# Altium schematic symbol library FPGA_Microsemi.SchLib: 18 symbols (part 1 of 2)
Pins are listed as number, name and electrical type; pins without a type are passive.

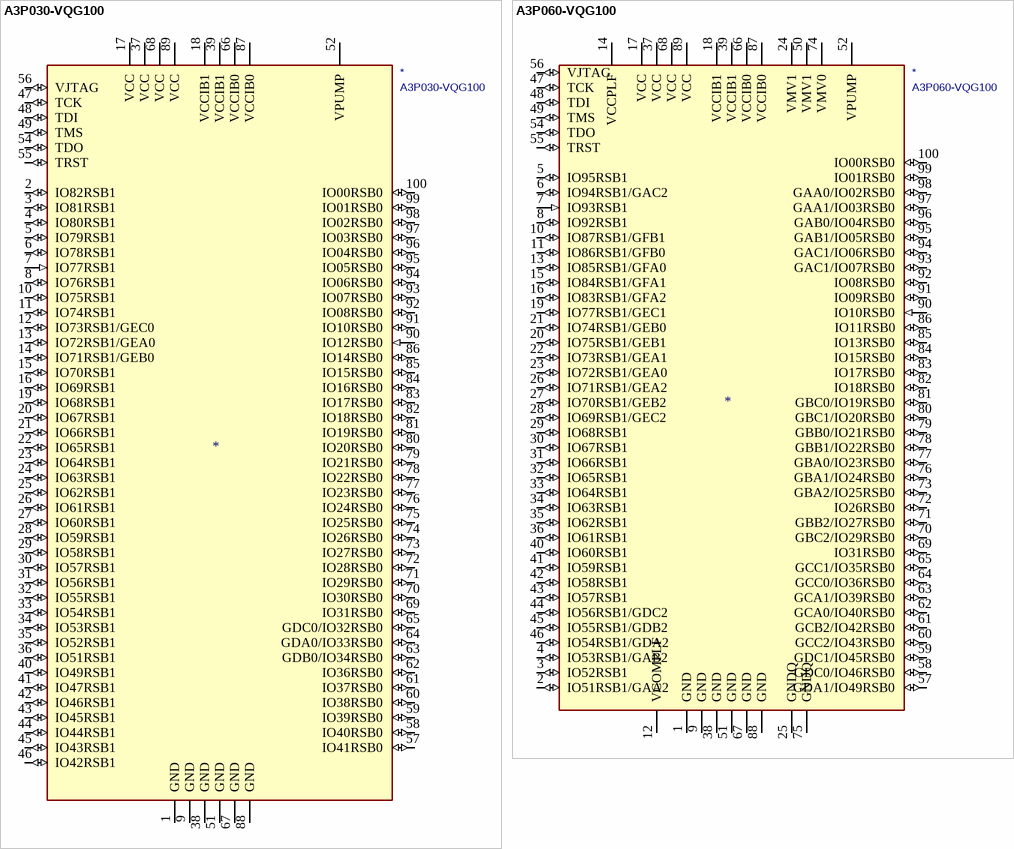
[diagram p0: symbols A3P030-VQG100 to A3P060-VQG100]

## A3P030-VQG100
designator *  value A3P030-VQG100
ki_keywords: ProASIC3 ACTEL FLASH; ki_description: Actel ProASIC3 Flash Family FPGAs, 256 MCLB, 100pin QFP100; ki_fp_filters: *QFP*14x14mm*P0.5mm*; Footprint: Package_QFP:VQFP-100_14x14mm_P0.5mm; Supplier: http://www.microsemi.com/document-portal/doc_download/130704-proasic3-flash-family-fpgas-datasheet
footprint VQFP-100_14x14mm_P0.5mm
pins: 1 GND (power), 2 IO82RSB1 (io), 3 IO81RSB1 (io), 4 IO80RSB1 (io), 5 IO79RSB1 (io), 6 IO78RSB1 (io), 7 IO77RSB1 (in), 8 IO76RSB1 (io), 9 GND (power), 10 IO75RSB1 (io), 11 IO74RSB1 (io), 12 IO73RSB1/GEC0 (io), 13 IO72RSB1/GEA0 (io), 14 IO71RSB1/GEB0 (io), 15 IO70RSB1 (io), 16 IO69RSB1 (io), 17 VCC (power), 18 VCCIB1 (power), 19 IO68RSB1 (io), 20 IO67RSB1 (io), 21 IO66RSB1 (io), 22 IO65RSB1 (io), 23 IO64RSB1 (io), 24 IO63RSB1 (io), 25 IO62RSB1 (io), 26 IO61RSB1 (io), 27 IO60RSB1 (io), 28 IO59RSB1 (io), 29 IO58RSB1 (io), 30 IO57RSB1 (io), 31 IO56RSB1 (io), 32 IO55RSB1 (io), 33 IO54RSB1 (io), 34 IO53RSB1 (io), 35 IO52RSB1 (io), 36 IO51RSB1 (io), 37 VCC (power), 38 GND (power), 39 VCCIB1 (power), 40 IO49RSB1 (io), 41 IO47RSB1 (io), 42 IO46RSB1 (io), 43 IO45RSB1 (io), 44 IO44RSB1 (io), 45 IO43RSB1 (io), 46 IO42RSB1 (io), 47 TCK (io), 48 TDI (io), 49 TMS (io), 51 GND (power), 52 VPUMP (power), 54 TDO (io), 55 TRST (io), 56 VJTAG (io), 57 IO41RSB0 (io), 58 IO40RSB0 (io), 59 IO39RSB0 (io), 60 IO38RSB0 (io), 61 IO37RSB0 (io), 62 IO36RSB0 (io), 63 GDB0/IO34RSB0 (io), 64 GDA0/IO33RSB0 (io), 65 GDC0/IO32RSB0 (io), 66 VCCIB0 (power), 67 GND (power), 68 VCC (power), 69 IO31RSB0 (io), 70 IO30RSB0 (io), 71 IO29RSB0 (io), 72 IO28RSB0 (io), 73 IO27RSB0 (io), 74 IO26RSB0 (io), 75 IO25RSB0 (io), 76 IO24RSB0 (io), 77 IO23RSB0 (io), 78 IO22RSB0 (io), 79 IO21RSB0 (io), 80 IO20RSB0 (io), 81 IO19RSB0 (io), 82 IO18RSB0 (io), 83 IO17RSB0 (io), 84 IO16RSB0 (io), 85 IO15RSB0 (io), 86 IO14RSB0 (io), 87 VCCIB0 (power), 88 GND (power), 89 VCC (power), 90 IO12RSB0 (in), 91 IO10RSB0 (io), 92 IO08RSB0 (io), 93 IO07RSB0 (io), 94 IO06RSB0 (io), 95 IO05RSB0 (io), 96 IO04RSB0 (io), 97 IO03RSB0 (io), 98 IO02RSB0 (io), 99 IO01RSB0 (io), 100 IO00RSB0 (io)

## A3P060-VQG100
designator *  value A3P060-VQG100
ki_keywords: ProASIC3 ACTEL FLASH; ki_description: Actel ProASIC3 Flash Family FPGAs, 512 MCLB, 100pin QFP100; ki_fp_filters: *QFP*14x14mm*P0.5mm*; Footprint: Package_QFP:VQFP-100_14x14mm_P0.5mm; Supplier: http://www.microsemi.com/document-portal/doc_download/130704-proasic3-flash-family-fpgas-datasheet
footprint VQFP-100_14x14mm_P0.5mm
pins: 1 GND (power), 2 IO51RSB1/GAA2 (io), 3 IO52RSB1 (io), 4 IO53RSB1/GAB2 (io), 5 IO95RSB1 (io), 6 IO94RSB1/GAC2 (io), 7 IO93RSB1 (in), 8 IO92RSB1 (io), 9 GND (power), 10 IO87RSB1/GFB1 (io), 11 IO86RSB1/GFB0 (io), 12 VCOMPLF (power), 13 IO85RSB1/GFA0 (io), 14 VCCPLF (power), 15 IO84RSB1/GFA1 (io), 16 IO83RSB1/GFA2 (io), 17 VCC (power), 18 VCCIB1 (power), 19 IO77RSB1/GEC1 (io), 20 IO75RSB1/GEB1 (io), 21 IO74RSB1/GEB0 (io), 22 IO73RSB1/GEA1 (io), 23 IO72RSB1/GEA0 (io), 24 VMV1 (power), 25 GNDQ (power), 26 IO71RSB1/GEA2 (io), 27 IO70RSB1/GEB2 (io), 28 IO69RSB1/GEC2 (io), 29 IO68RSB1 (io), 30 IO67RSB1 (io), 31 IO66RSB1 (io), 32 IO65RSB1 (io), 33 IO64RSB1 (io), 34 IO63RSB1 (io), 35 IO62RSB1 (io), 36 IO61RSB1 (io), 37 VCC (power), 38 GND (power), 39 VCCIB1 (power), 40 IO60RSB1 (io), 41 IO59RSB1 (io), 42 IO58RSB1 (io), 43 IO57RSB1 (io), 44 IO56RSB1/GDC2 (io), 45 IO55RSB1/GDB2 (io), 46 IO54RSB1/GDA2 (io), 47 TCK (io), 48 TDI (io), 49 TMS (io), 50 VMV1 (power), 51 GND (power), 52 VPUMP (power), 54 TDO (io), 55 TRST (io), 56 VJTAG (io), 57 GDA1/IO49RSB0 (io), 58 GDC0/IO46RSB0 (io), 59 GDC1/IO45RSB0 (io), 60 GCC2/IO43RSB0 (io), 61 GCB2/IO42RSB0 (io), 62 GCA0/IO40RSB0 (io), 63 GCA1/IO39RSB0 (io), 64 GCC0/IO36RSB0 (io), 65 GCC1/IO35RSB0 (io), 66 VCCIB0 (power), 67 GND (power), 68 VCC (power), 69 IO31RSB0 (io), 70 GBC2/IO29RSB0 (io), 71 GBB2/IO27RSB0 (io), 72 IO26RSB0 (io), 73 GBA2/IO25RSB0 (io), 74 VMV0 (power), 75 GNDQ (power), 76 GBA1/IO24RSB0 (io), 77 GBA0/IO23RSB0 (io), 78 GBB1/IO22RSB0 (io), 79 GBB0/IO21RSB0 (io), 80 GBC1/IO20RSB0 (io), 81 GBC0/IO19RSB0 (io), 82 IO18RSB0 (io), 83 IO17RSB0 (io), 84 IO15RSB0 (io), 85 IO13RSB0 (io), 86 IO11RSB0 (io), 87 VCCIB0 (power), 88 GND (power), 89 VCC (power), 90 IO10RSB0 (in), 91 IO09RSB0 (io), 92 IO08RSB0 (io), 93 GAC1/IO07RSB0 (io), 94 GAC1/IO06RSB0 (io), 95 GAB1/IO05RSB0 (io), 96 GAB0/IO04RSB0 (io), 97 GAA1/IO03RSB0 (io), 98 GAA0/IO02RSB0 (io), 99 IO01RSB0 (io), 100 IO00RSB0 (io)

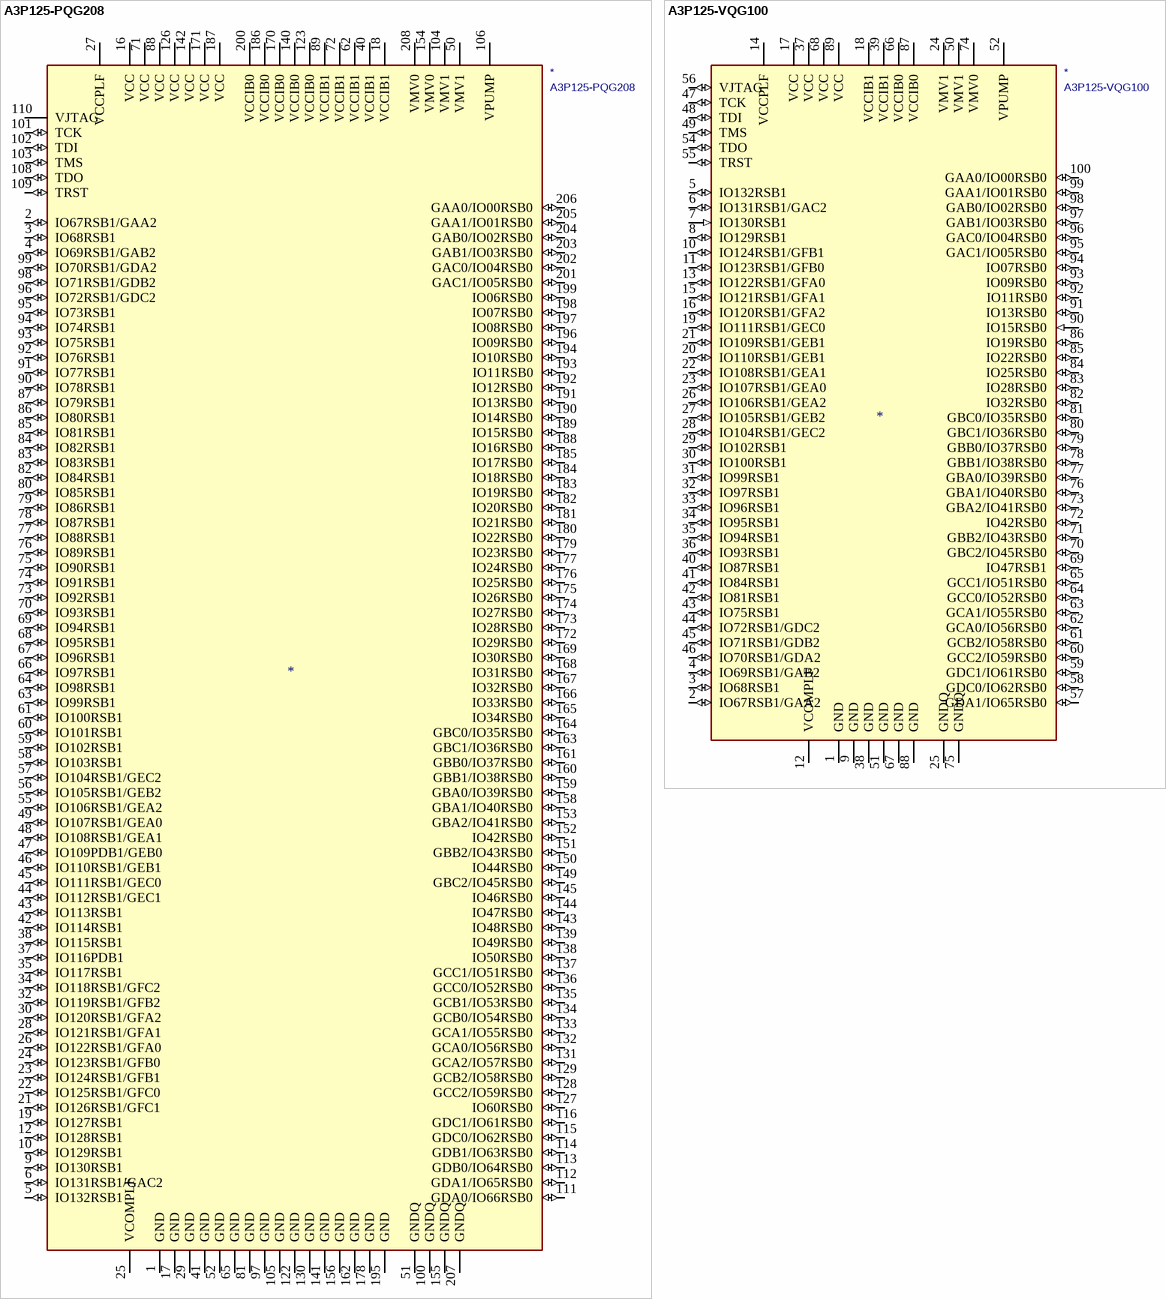
[diagram p1: symbols A3P125-PQG208 to A3P125-VQG100]

## A3P125-PQG208
designator *  value A3P125-PQG208
ki_keywords: ProASIC3 ACTEL FLASH; ki_description: Actel ProASIC3 Flash Family FPGAs, 1024MCB, 208pin QFP; ki_fp_filters: *PQFP*28x28mm*P0.5mm*; Footprint: Package_QFP:PQFP-208_28x28mm_P0.5mm; Supplier: http://www.microsemi.com/document-portal/doc_download/130704-proasic3-flash-family-fpgas-datasheet
footprint PQFP-208_28x28mm_P0.5mm
pins: 1 GND (power), 2 IO67RSB1/GAA2 (io), 3 IO68RSB1 (io), 4 IO69RSB1/GAB2 (io), 5 IO132RSB1 (io), 6 IO131RSB1/GAC2 (io), 9 IO130RSB1 (io), 10 IO129RSB1 (io), 12 IO128RSB1 (io), 16 VCC (power), 17 GND (power), 18 VCCIB1 (power), 19 IO127RSB1 (io), 21 IO126RSB1/GFC1 (io), 22 IO125RSB1/GFC0 (io), 23 IO124RSB1/GFB1 (io), 24 IO123RSB1/GFB0 (io), 25 VCOMPLF (power), 26 IO122RSB1/GFA0 (io), 27 VCCPLF (power), 28 IO121RSB1/GFA1 (io), 29 GND (power), 30 IO120RSB1/GFA2 (io), 32 IO119RSB1/GFB2 (io), 34 IO118RSB1/GFC2 (io), 35 IO117RSB1 (io), 37 IO116PDB1 (io), 38 IO115RSB1 (io), 40 VCCIB1 (power), 41 GND (power), 42 IO114RSB1 (io), 43 IO113RSB1 (io), 44 IO112RSB1/GEC1 (io), 45 IO111RSB1/GEC0 (io), 46 IO110RSB1/GEB1 (io), 47 IO109PDB1/GEB0 (io), 48 IO108RSB1/GEA1 (io), 49 IO107RSB1/GEA0 (io), 50 VMV1 (power), 51 GNDQ (power), 52 GND (power), 55 IO106RSB1/GEA2 (io), 56 IO105RSB1/GEB2 (io), 57 IO104RSB1/GEC2 (io), 58 IO103RSB1 (io), 59 IO102RSB1 (io), 60 IO101RSB1 (io), 61 IO100RSB1 (io), 62 VCCIB1 (power), 63 IO99RSB1 (io), 64 IO98RSB1 (io), 65 GND (power), 66 IO97RSB1 (io), 67 IO96RSB1 (io), 68 IO95RSB1 (io), 69 IO94RSB1 (io), 70 IO93RSB1 (io), 71 VCC (power), 72 VCCIB1 (power), 73 IO92RSB1 (io), 74 IO91RSB1 (io), 75 IO90RSB1 (io), 76 IO89RSB1 (io), 77 IO88RSB1 (io), 78 IO87RSB1 (io), 79 IO86RSB1 (io), 80 IO85RSB1 (io), 81 GND (power), 82 IO84RSB1 (io), 83 IO83RSB1 (io), 84 IO82RSB1 (io), 85 IO81RSB1 (io), 86 IO80RSB1 (io), 87 IO79RSB1 (io), 88 VCC (power), 89 VCCIB1 (power), 90 IO78RSB1 (io), 91 IO77RSB1 (io), 92 IO76RSB1 (io), 93 IO75RSB1 (io), 94 IO74RSB1 (io), 95 IO73RSB1 (io), 96 IO72RSB1/GDC2 (io), 97 GND (power), 98 IO71RSB1/GDB2 (io), 99 IO70RSB1/GDA2 (io), 100 GNDQ (power), 101 TCK (io), 102 TDI (io), 103 TMS (io), 104 VMV1 (power), 105 GND (power), 106 VPUMP (power), 108 TDO (io), 109 TRST (io), 110 VJTAG (power), 111 GDA0/IO66RSB0 (io), 112 GDA1/IO65RSB0 (io), 113 GDB0/IO64RSB0 (io), 114 GDB1/IO63RSB0 (io), 115 GDC0/IO62RSB0 (io), 116 GDC1/IO61RSB0 (io), 122 GND (power), 123 VCCIB0 (power), 126 VCC (power), 127 IO60RSB0 (io), 128 GCC2/IO59RSB0 (io), 129 GCB2/IO58RSB0 (io), 130 GND (power), 131 GCA2/IO57RSB0 (io), 132 GCA0/IO56RSB0 (io), 133 GCA1/IO55RSB0 (io), 134 GCB0/IO54RSB0 (io), 135 GCB1/IO53RSB0 (io), 136 GCC0/IO52RSB0 (io), 137 GCC1/IO51RSB0 (io), 138 IO50RSB0 (io), 139 IO49RSB0 (io), 140 VCCIB0 (power), 141 GND (power), 142 VCC (power), 143 IO48RSB0 (io), 144 IO47RSB0 (io), 145 IO46RSB0 (io), 149 GBC2/IO45RSB0 (io), 150 IO44RSB0 (io), 151 GBB2/IO43RSB0 (io), 152 IO42RSB0 (io), 153 GBA2/IO41RSB0 (io), 154 VMV0 (power), 155 GNDQ (power), 156 GND (power), 158 GBA1/IO40RSB0 (io), 159 GBA0/IO39RSB0 (io), 160 GBB1/IO38RSB0 (io), 161 GBB0/IO37RSB0 (io), 162 GND (power), 163 GBC1/IO36RSB0 (io), 164 GBC0/IO35RSB0 (io), 165 IO34RSB0 (io), 166 IO33RSB0 (io), 167 IO32RSB0 (io), 168 IO31RSB0 (io), 169 IO30RSB0 (io), 170 VCCIB0 (power), 171 VCC (power), 172 IO29RSB0 (io), 173 IO28RSB0 (io), 174 IO27RSB0 (io), 175 IO26RSB0 (io), 176 IO25RSB0 (io), 177 IO24RSB0 (io), 178 GND (power), 179 IO23RSB0 (io), 180 IO22RSB0 (io), 181 IO21RSB0 (io), 182 IO20RSB0 (io), 183 IO19RSB0 (io), 184 IO18RSB0 (io), 185 IO17RSB0 (io), 186 VCCIB0 (power), 187 VCC (power), 188 IO16RSB0 (io), 189 IO15RSB0 (io), 190 IO14RSB0 (io), 191 IO13RSB0 (io), 192 IO12RSB0 (io), 193 IO11RSB0 (io), 194 IO10RSB0 (io), 195 GND (power), 196 IO09RSB0 (io), 197 IO08RSB0 (io), 198 IO07RSB0 (io), 199 IO06RSB0 (io), 200 VCCIB0 (power), 201 GAC1/IO05RSB0 (io), 202 GAC0/IO04RSB0 (io), 203 GAB1/IO03RSB0 (io), 204 GAB0/IO02RSB0 (io), 205 GAA1/IO01RSB0 (io), 206 GAA0/IO00RSB0 (io), 207 GNDQ (power), 208 VMV0 (power)

## A3P125-VQG100
designator *  value A3P125-VQG100
ki_keywords: ProASIC3 ACTEL FLASH; ki_description: Actel ProASIC3 Flash Family FPGAs, 1024 MCLB, 100pin QFP100; ki_fp_filters: *QFP*14x14mm*P0.5mm*; Footprint: Package_QFP:VQFP-100_14x14mm_P0.5mm; Supplier: http://www.microsemi.com/document-portal/doc_download/130704-proasic3-flash-family-fpgas-datasheet
footprint VQFP-100_14x14mm_P0.5mm
pins: 1 GND (power), 2 IO67RSB1/GAA2 (io), 3 IO68RSB1 (io), 4 IO69RSB1/GAB2 (io), 5 IO132RSB1 (io), 6 IO131RSB1/GAC2 (io), 7 IO130RSB1 (in), 8 IO129RSB1 (io), 9 GND (power), 10 IO124RSB1/GFB1 (io), 11 IO123RSB1/GFB0 (io), 12 VCOMPLF (power), 13 IO122RSB1/GFA0 (io), 14 VCCPLF (power), 15 IO121RSB1/GFA1 (io), 16 IO120RSB1/GFA2 (io), 17 VCC (power), 18 VCCIB1 (power), 19 IO111RSB1/GEC0 (io), 20 IO110RSB1/GEB1 (io), 21 IO109RSB1/GEB1 (io), 22 IO108RSB1/GEA1 (io), 23 IO107RSB1/GEA0 (io), 24 VMV1 (power), 25 GNDQ (power), 26 IO106RSB1/GEA2 (io), 27 IO105RSB1/GEB2 (io), 28 IO104RSB1/GEC2 (io), 29 IO102RSB1 (io), 30 IO100RSB1 (io), 31 IO99RSB1 (io), 32 IO97RSB1 (io), 33 IO96RSB1 (io), 34 IO95RSB1 (io), 35 IO94RSB1 (io), 36 IO93RSB1 (io), 37 VCC (power), 38 GND (power), 39 VCCIB1 (power), 40 IO87RSB1 (io), 41 IO84RSB1 (io), 42 IO81RSB1 (io), 43 IO75RSB1 (io), 44 IO72RSB1/GDC2 (io), 45 IO71RSB1/GDB2 (io), 46 IO70RSB1/GDA2 (io), 47 TCK (io), 48 TDI (io), 49 TMS (io), 50 VMV1 (power), 51 GND (power), 52 VPUMP (power), 54 TDO (io), 55 TRST (io), 56 VJTAG (io), 57 GDA1/IO65RSB0 (io), 58 GDC0/IO62RSB0 (io), 59 GDC1/IO61RSB0 (io), 60 GCC2/IO59RSB0 (io), 61 GCB2/IO58RSB0 (io), 62 GCA0/IO56RSB0 (io), 63 GCA1/IO55RSB0 (io), 64 GCC0/IO52RSB0 (io), 65 GCC1/IO51RSB0 (io), 66 VCCIB0 (power), 67 GND (power), 68 VCC (power), 69 IO47RSB1 (io), 70 GBC2/IO45RSB0 (io), 71 GBB2/IO43RSB0 (io), 72 IO42RSB0 (io), 73 GBA2/IO41RSB0 (io), 74 VMV0 (power), 75 GNDQ (power), 76 GBA1/IO40RSB0 (io), 77 GBA0/IO39RSB0 (io), 78 GBB1/IO38RSB0 (io), 79 GBB0/IO37RSB0 (io), 80 GBC1/IO36RSB0 (io), 81 GBC0/IO35RSB0 (io), 82 IO32RSB0 (io), 83 IO28RSB0 (io), 84 IO25RSB0 (io), 85 IO22RSB0 (io), 86 IO19RSB0 (io), 87 VCCIB0 (power), 88 GND (power), 89 VCC (power), 90 IO15RSB0 (in), 91 IO13RSB0 (io), 92 IO11RSB0 (io), 93 IO09RSB0 (io), 94 IO07RSB0 (io), 95 GAC1/IO05RSB0 (io), 96 GAC0/IO04RSB0 (io), 97 GAB1/IO03RSB0 (io), 98 GAB0/IO02RSB0 (io), 99 GAA1/IO01RSB0 (io), 100 GAA0/IO00RSB0 (io)

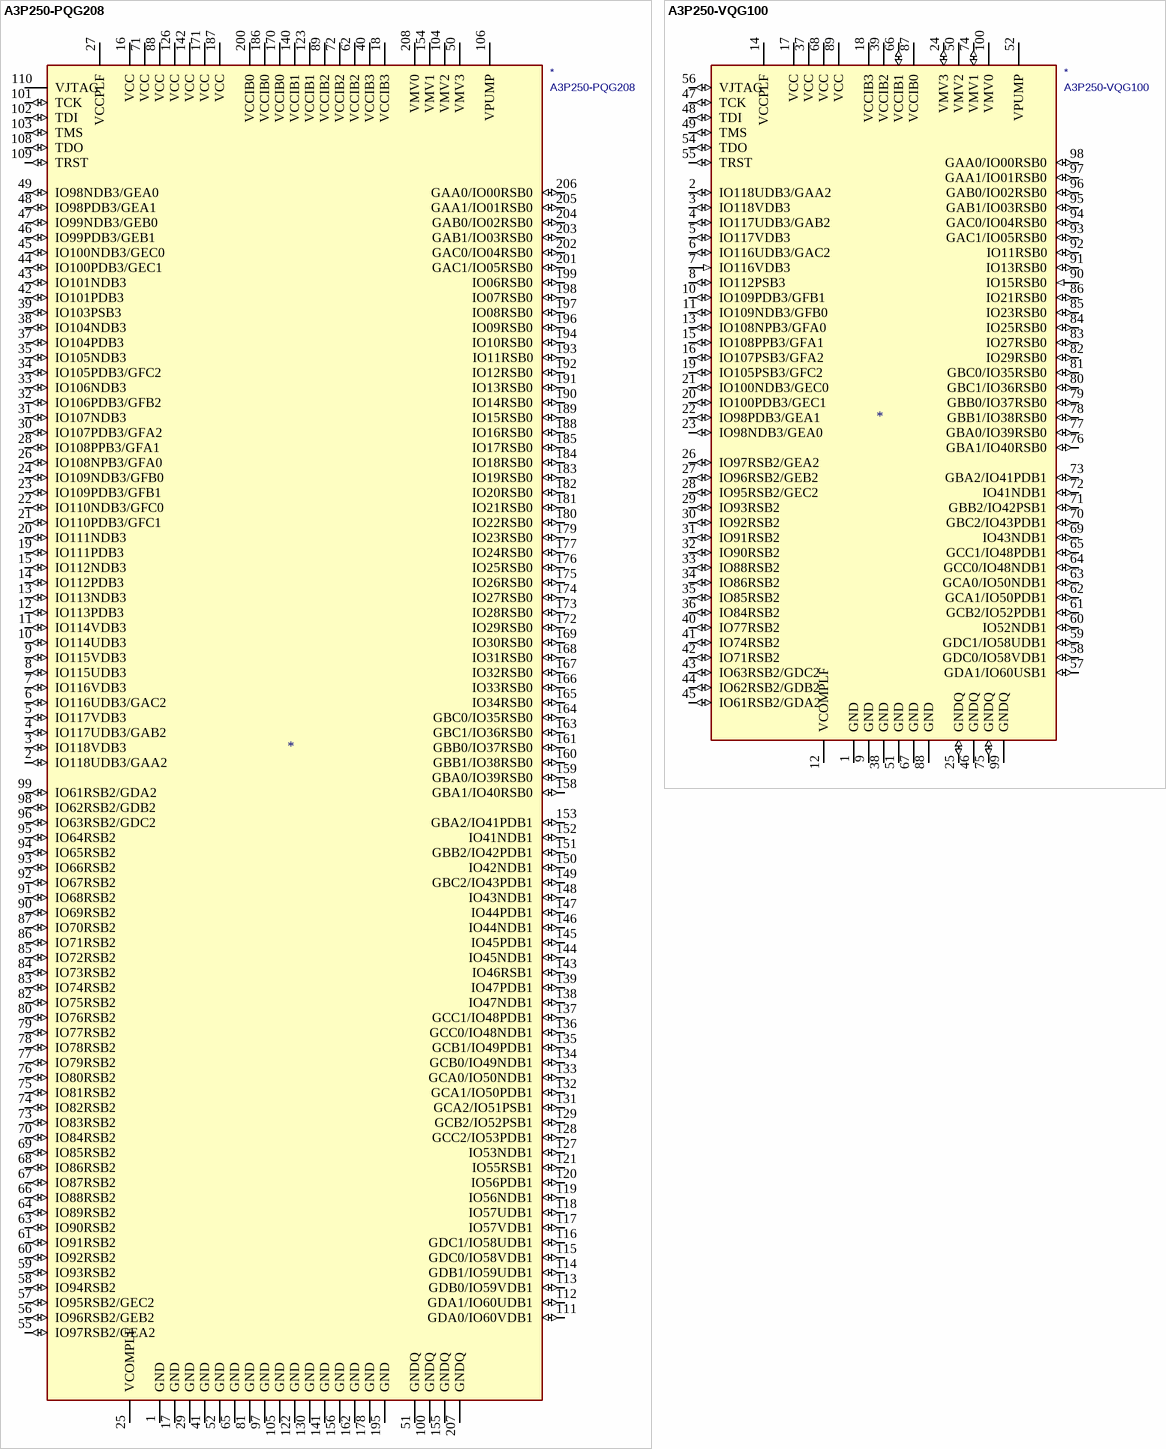
[diagram p2: symbols A3P250-PQG208 to A3P250-VQG100]

## A3P250-PQG208
designator *  value A3P250-PQG208
ki_keywords: ProASIC3 ACTEL FLASH; ki_description: Actel ProASIC3 Flash Family FPGAs, 2048MCB, 208pin QFP; ki_fp_filters: *PQFP*28x28mm*P0.5mm*; Footprint: Package_QFP:PQFP-208_28x28mm_P0.5mm; Supplier: http://www.microsemi.com/document-portal/doc_download/130704-proasic3-flash-family-fpgas-datasheet
footprint PQFP-208_28x28mm_P0.5mm
pins: 1 GND (power), 2 IO118UDB3/GAA2 (io), 3 IO118VDB3 (io), 4 IO117UDB3/GAB2 (io), 5 IO117VDB3 (io), 6 IO116UDB3/GAC2 (io), 7 IO116VDB3 (io), 8 IO115UDB3 (io), 9 IO115VDB3 (io), 10 IO114UDB3 (io), 11 IO114VDB3 (io), 12 IO113PDB3 (io), 13 IO113NDB3 (io), 14 IO112PDB3 (io), 15 IO112NDB3 (io), 16 VCC (power), 17 GND (power), 18 VCCIB3 (power), 19 IO111PDB3 (io), 20 IO111NDB3 (io), 21 IO110PDB3/GFC1 (io), 22 IO110NDB3/GFC0 (io), 23 IO109PDB3/GFB1 (io), 24 IO109NDB3/GFB0 (io), 25 VCOMPLF (power), 26 IO108NPB3/GFA0 (io), 27 VCCPLF (power), 28 IO108PPB3/GFA1 (io), 29 GND (power), 30 IO107PDB3/GFA2 (io), 31 IO107NDB3 (io), 32 IO106PDB3/GFB2 (io), 33 IO106NDB3 (io), 34 IO105PDB3/GFC2 (io), 35 IO105NDB3 (io), 37 IO104PDB3 (io), 38 IO104NDB3 (io), 39 IO103PSB3 (io), 40 VCCIB3 (power), 41 GND (power), 42 IO101PDB3 (io), 43 IO101NDB3 (io), 44 IO100PDB3/GEC1 (io), 45 IO100NDB3/GEC0 (io), 46 IO99PDB3/GEB1 (io), 47 IO99NDB3/GEB0 (io), 48 IO98PDB3/GEA1 (io), 49 IO98NDB3/GEA0 (io), 50 VMV3 (power), 51 GNDQ (power), 52 GND (power), 55 IO97RSB2/GEA2 (io), 56 IO96RSB2/GEB2 (io), 57 IO95RSB2/GEC2 (io), 58 IO94RSB2 (io), 59 IO93RSB2 (io), 60 IO92RSB2 (io), 61 IO91RSB2 (io), 62 VCCIB2 (power), 63 IO90RSB2 (io), 64 IO89RSB2 (io), 65 GND (power), 66 IO88RSB2 (io), 67 IO87RSB2 (io), 68 IO86RSB2 (io), 69 IO85RSB2 (io), 70 IO84RSB2 (io), 71 VCC (power), 72 VCCIB2 (power), 73 IO83RSB2 (io), 74 IO82RSB2 (io), 75 IO81RSB2 (io), 76 IO80RSB2 (io), 77 IO79RSB2 (io), 78 IO78RSB2 (io), 79 IO77RSB2 (io), 80 IO76RSB2 (io), 81 GND (power), 82 IO75RSB2 (io), 83 IO74RSB2 (io), 84 IO73RSB2 (io), 85 IO72RSB2 (io), 86 IO71RSB2 (io), 87 IO70RSB2 (io), 88 VCC (power), 89 VCCIB2 (power), 90 IO69RSB2 (io), 91 IO68RSB2 (io), 92 IO67RSB2 (io), 93 IO66RSB2 (io), 94 IO65RSB2 (io), 95 IO64RSB2 (io), 96 IO63RSB2/GDC2 (io), 97 GND (power), 98 IO62RSB2/GDB2 (io), 99 IO61RSB2/GDA2 (io), 100 GNDQ (power), 101 TCK (io), 102 TDI (io), 103 TMS (io), 104 VMV2 (power), 105 GND (power), 106 VPUMP (power), 108 TDO (io), 109 TRST (io), 110 VJTAG (power), 111 GDA0/IO60VDB1 (io), 112 GDA1/IO60UDB1 (io), 113 GDB0/IO59VDB1 (io), 114 GDB1/IO59UDB1 (io), 115 GDC0/IO58VDB1 (io), 116 GDC1/IO58UDB1 (io), 117 IO57VDB1 (io), 118 IO57UDB1 (io), 119 IO56NDB1 (io), 120 IO56PDB1 (io), 121 IO55RSB1 (io), 122 GND (power), 123 VCCIB1 (power), 126 VCC (power), 127 IO53NDB1 (io), 128 GCC2/IO53PDB1 (io), 129 GCB2/IO52PSB1 (io), 130 GND (power), 131 GCA2/IO51PSB1 (io), 132 GCA1/IO50PDB1 (io), 133 GCA0/IO50NDB1 (io), 134 GCB0/IO49NDB1 (io), 135 GCB1/IO49PDB1 (io), 136 GCC0/IO48NDB1 (io), 137 GCC1/IO48PDB1 (io), 138 IO47NDB1 (io), 139 IO47PDB1 (io), 140 VCCIB1 (power), 141 GND (power), 142 VCC (power), 143 IO46RSB1 (io), 144 IO45NDB1 (io), 145 IO45PDB1 (io), 146 IO44NDB1 (io), 147 IO44PDB1 (io), 148 IO43NDB1 (io), 149 GBC2/IO43PDB1 (io), 150 IO42NDB1 (io), 151 GBB2/IO42PDB1 (io), 152 IO41NDB1 (io), 153 GBA2/IO41PDB1 (io), 154 VMV1 (power), 155 GNDQ (power), 156 GND (power), 158 GBA1/IO40RSB0 (io), 159 GBA0/IO39RSB0 (io), 160 GBB1/IO38RSB0 (io), 161 GBB0/IO37RSB0 (io), 162 GND (power), 163 GBC1/IO36RSB0 (io), 164 GBC0/IO35RSB0 (io), 165 IO34RSB0 (io), 166 IO33RSB0 (io), 167 IO32RSB0 (io), 168 IO31RSB0 (io), 169 IO30RSB0 (io), 170 VCCIB0 (power), 171 VCC (power), 172 IO29RSB0 (io), 173 IO28RSB0 (io), 174 IO27RSB0 (io), 175 IO26RSB0 (io), 176 IO25RSB0 (io), 177 IO24RSB0 (io), 178 GND (power), 179 IO23RSB0 (io), 180 IO22RSB0 (io), 181 IO21RSB0 (io), 182 IO20RSB0 (io), 183 IO19RSB0 (io), 184 IO18RSB0 (io), 185 IO17RSB0 (io), 186 VCCIB0 (power), 187 VCC (power), 188 IO16RSB0 (io), 189 IO15RSB0 (io), 190 IO14RSB0 (io), 191 IO13RSB0 (io), 192 IO12RSB0 (io), 193 IO11RSB0 (io), 194 IO10RSB0 (io), 195 GND (power), 196 IO09RSB0 (io), 197 IO08RSB0 (io), 198 IO07RSB0 (io), 199 IO06RSB0 (io), 200 VCCIB0 (power), 201 GAC1/IO05RSB0 (io), 202 GAC0/IO04RSB0 (io), 203 GAB1/IO03RSB0 (io), 204 GAB0/IO02RSB0 (io), 205 GAA1/IO01RSB0 (io), 206 GAA0/IO00RSB0 (io), 207 GNDQ (power), 208 VMV0 (power)

## A3P250-VQG100
designator *  value A3P250-VQG100
ki_keywords: ProASIC3 ACTEL FLASH; ki_description: Actel ProASIC3 Flash Family FPGAs, 2048 MCLB, 100pin QFP100; ki_fp_filters: *QFP*14x14mm*P0.5mm*; Footprint: Package_QFP:VQFP-100_14x14mm_P0.5mm; Supplier: http://www.microsemi.com/document-portal/doc_download/130704-proasic3-flash-family-fpgas-datasheet
footprint VQFP-100_14x14mm_P0.5mm
pins: 1 GND (power), 2 IO118UDB3/GAA2 (io), 3 IO118VDB3 (io), 4 IO117UDB3/GAB2 (io), 5 IO117VDB3 (io), 6 IO116UDB3/GAC2 (io), 7 IO116VDB3 (in), 8 IO112PSB3 (io), 9 GND (power), 10 IO109PDB3/GFB1 (io), 11 IO109NDB3/GFB0 (io), 12 VCOMPLF (power), 13 IO108NPB3/GFA0 (io), 14 VCCPLF (power), 15 IO108PPB3/GFA1 (io), 16 IO107PSB3/GFA2 (io), 17 VCC (power), 18 VCCIB3 (power), 19 IO105PSB3/GFC2 (io), 20 IO100PDB3/GEC1 (io), 21 IO100NDB3/GEC0 (io), 22 IO98PDB3/GEA1 (io), 23 IO98NDB3/GEA0 (io), 24 VMV3 (io), 25 GNDQ (io), 26 IO97RSB2/GEA2 (io), 27 IO96RSB2/GEB2 (io), 28 IO95RSB2/GEC2 (io), 29 IO93RSB2 (io), 30 IO92RSB2 (io), 31 IO91RSB2 (io), 32 IO90RSB2 (io), 33 IO88RSB2 (io), 34 IO86RSB2 (io), 35 IO85RSB2 (io), 36 IO84RSB2 (io), 37 VCC (power), 38 GND (power), 39 VCCIB2 (power), 40 IO77RSB2 (io), 41 IO74RSB2 (io), 42 IO71RSB2 (io), 43 IO63RSB2/GDC2 (io), 44 IO62RSB2/GDB2 (io), 45 IO61RSB2/GDA2 (io), 46 GNDQ (power), 47 TCK (io), 48 TDI (io), 49 TMS (io), 50 VMV2 (power), 51 GND (power), 52 VPUMP (power), 54 TDO (io), 55 TRST (io), 56 VJTAG (io), 57 GDA1/IO60USB1 (io), 58 GDC0/IO58VDB1 (io), 59 GDC1/IO58UDB1 (io), 60 IO52NDB1 (io), 61 GCB2/IO52PDB1 (io), 62 GCA1/IO50PDB1 (io), 63 GCA0/IO50NDB1 (io), 64 GCC0/IO48NDB1 (io), 65 GCC1/IO48PDB1 (io), 66 VCCIB1 (io), 67 GND (power), 68 VCC (power), 69 IO43NDB1 (io), 70 GBC2/IO43PDB1 (io), 71 GBB2/IO42PSB1 (io), 72 IO41NDB1 (io), 73 GBA2/IO41PDB1 (io), 74 VMV1 (io), 75 GNDQ (io), 76 GBA1/IO40RSB0 (io), 77 GBA0/IO39RSB0 (io), 78 GBB1/IO38RSB0 (io), 79 GBB0/IO37RSB0 (io), 80 GBC1/IO36RSB0 (io), 81 GBC0/IO35RSB0 (io), 82 IO29RSB0 (io), 83 IO27RSB0 (io), 84 IO25RSB0 (io), 85 IO23RSB0 (io), 86 IO21RSB0 (io), 87 VCCIB0 (power), 88 GND (power), 89 VCC (power), 90 IO15RSB0 (in), 91 IO13RSB0 (io), 92 IO11RSB0 (io), 93 GAC1/IO05RSB0 (io), 94 GAC0/IO04RSB0 (io), 95 GAB1/IO03RSB0 (io), 96 GAB0/IO02RSB0 (io), 97 GAA1/IO01RSB0 (io), 98 GAA0/IO00RSB0 (io), 99 GNDQ (power), 100 VMV0 (power)

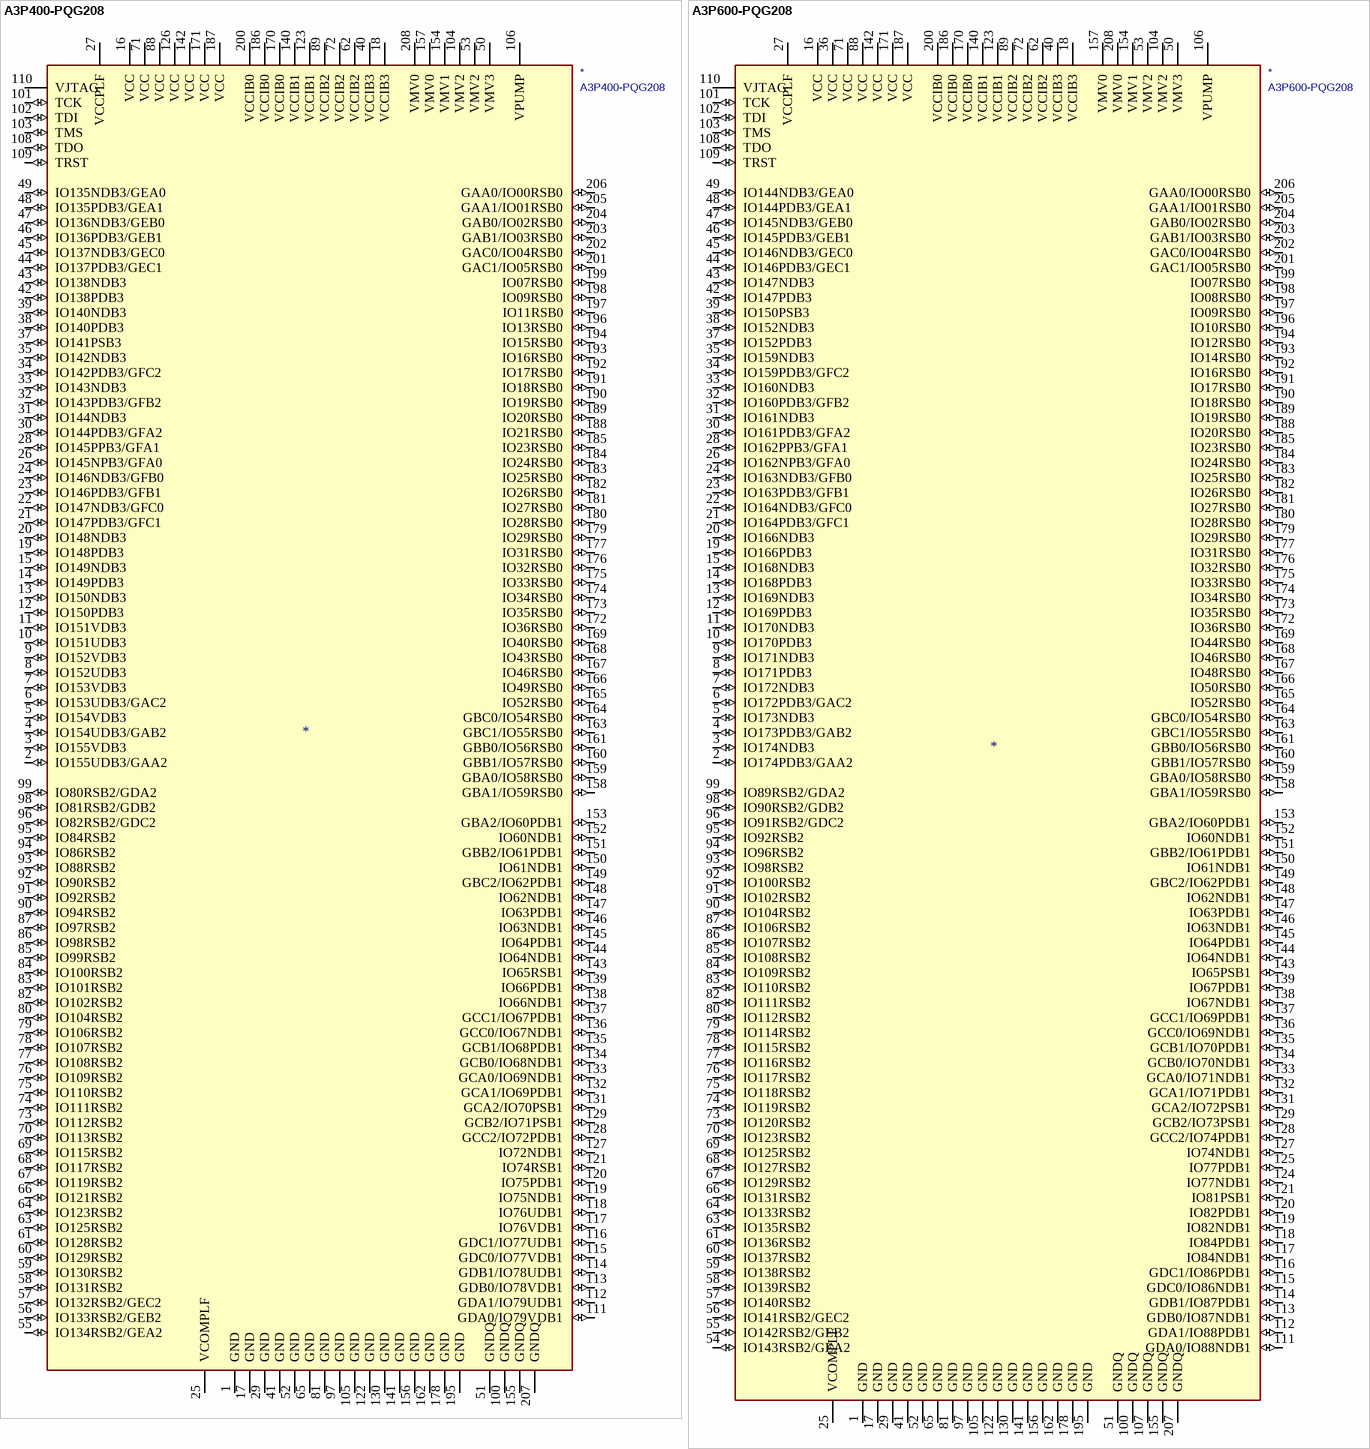
[diagram p3: symbols A3P400-PQG208 to A3P600-PQG208]

## A3P400-PQG208
designator *  value A3P400-PQG208
ki_keywords: ProASIC3 ACTEL FLASH; ki_description: Actel ProASIC3 Flash Family FPGAs, 400k Gates, 208pin QFP; ki_fp_filters: *PQFP*28x28mm*P0.5mm*; Footprint: Package_QFP:PQFP-208_28x28mm_P0.5mm; Supplier: http://www.microsemi.com/document-portal/doc_download/130704-proasic3-flash-family-fpgas-datasheet
footprint PQFP-208_28x28mm_P0.5mm
pins: 1 GND (power), 2 IO155UDB3/GAA2 (io), 3 IO155VDB3 (io), 4 IO154UDB3/GAB2 (io), 5 IO154VDB3 (io), 6 IO153UDB3/GAC2 (io), 7 IO153VDB3 (io), 8 IO152UDB3 (io), 9 IO152VDB3 (io), 10 IO151UDB3 (io), 11 IO151VDB3 (io), 12 IO150PDB3 (io), 13 IO150NDB3 (io), 14 IO149PDB3 (io), 15 IO149NDB3 (io), 16 VCC (power), 17 GND (power), 18 VCCIB3 (power), 19 IO148PDB3 (io), 20 IO148NDB3 (io), 21 IO147PDB3/GFC1 (io), 22 IO147NDB3/GFC0 (io), 23 IO146PDB3/GFB1 (io), 24 IO146NDB3/GFB0 (io), 25 VCOMPLF (power), 26 IO145NPB3/GFA0 (io), 27 VCCPLF (power), 28 IO145PPB3/GFA1 (io), 29 GND (power), 30 IO144PDB3/GFA2 (io), 31 IO144NDB3 (io), 32 IO143PDB3/GFB2 (io), 33 IO143NDB3 (io), 34 IO142PDB3/GFC2 (io), 35 IO142NDB3 (io), 37 IO141PSB3 (io), 38 IO140PDB3 (io), 39 IO140NDB3 (io), 40 VCCIB3 (power), 41 GND (power), 42 IO138PDB3 (io), 43 IO138NDB3 (io), 44 IO137PDB3/GEC1 (io), 45 IO137NDB3/GEC0 (io), 46 IO136PDB3/GEB1 (io), 47 IO136NDB3/GEB0 (io), 48 IO135PDB3/GEA1 (io), 49 IO135NDB3/GEA0 (io), 50 VMV3 (power), 51 GNDQ (power), 52 GND (power), 53 VMV2 (power), 55 IO134RSB2/GEA2 (io), 56 IO133RSB2/GEB2 (io), 57 IO132RSB2/GEC2 (io), 58 IO131RSB2 (io), 59 IO130RSB2 (io), 60 IO129RSB2 (io), 61 IO128RSB2 (io), 62 VCCIB2 (power), 63 IO125RSB2 (io), 64 IO123RSB2 (io), 65 GND (power), 66 IO121RSB2 (io), 67 IO119RSB2 (io), 68 IO117RSB2 (io), 69 IO115RSB2 (io), 70 IO113RSB2 (io), 71 VCC (power), 72 VCCIB2 (power), 73 IO112RSB2 (io), 74 IO111RSB2 (io), 75 IO110RSB2 (io), 76 IO109RSB2 (io), 77 IO108RSB2 (io), 78 IO107RSB2 (io), 79 IO106RSB2 (io), 80 IO104RSB2 (io), 81 GND (power), 82 IO102RSB2 (io), 83 IO101RSB2 (io), 84 IO100RSB2 (io), 85 IO99RSB2 (io), 86 IO98RSB2 (io), 87 IO97RSB2 (io), 88 VCC (power), 89 VCCIB2 (power), 90 IO94RSB2 (io), 91 IO92RSB2 (io), 92 IO90RSB2 (io), 93 IO88RSB2 (io), 94 IO86RSB2 (io), 95 IO84RSB2 (io), 96 IO82RSB2/GDC2 (io), 97 GND (power), 98 IO81RSB2/GDB2 (io), 99 IO80RSB2/GDA2 (io), 100 GNDQ (power), 101 TCK (io), 102 TDI (io), 103 TMS (io), 104 VMV2 (power), 105 GND (power), 106 VPUMP (power), 108 TDO (io), 109 TRST (io), 110 VJTAG (power), 111 GDA0/IO79VDB1 (io), 112 GDA1/IO79UDB1 (io), 113 GDB0/IO78VDB1 (io), 114 GDB1/IO78UDB1 (io), 115 GDC0/IO77VDB1 (io), 116 GDC1/IO77UDB1 (io), 117 IO76VDB1 (io), 118 IO76UDB1 (io), 119 IO75NDB1 (io), 120 IO75PDB1 (io), 121 IO74RSB1 (io), 122 GND (power), 123 VCCIB1 (power), 126 VCC (power), 127 IO72NDB1 (io), 128 GCC2/IO72PDB1 (io), 129 GCB2/IO71PSB1 (io), 130 GND (power), 131 GCA2/IO70PSB1 (io), 132 GCA1/IO69PDB1 (io), 133 GCA0/IO69NDB1 (io), 134 GCB0/IO68NDB1 (io), 135 GCB1/IO68PDB1 (io), 136 GCC0/IO67NDB1 (io), 137 GCC1/IO67PDB1 (io), 138 IO66NDB1 (io), 139 IO66PDB1 (io), 140 VCCIB1 (power), 141 GND (power), 142 VCC (power), 143 IO65RSB1 (io), 144 IO64NDB1 (io), 145 IO64PDB1 (io), 146 IO63NDB1 (io), 147 IO63PDB1 (io), 148 IO62NDB1 (io), 149 GBC2/IO62PDB1 (io), 150 IO61NDB1 (io), 151 GBB2/IO61PDB1 (io), 152 IO60NDB1 (io), 153 GBA2/IO60PDB1 (io), 154 VMV1 (power), 155 GNDQ (power), 156 GND (power), 157 VMV0 (power), 158 GBA1/IO59RSB0 (io), 159 GBA0/IO58RSB0 (io), 160 GBB1/IO57RSB0 (io), 161 GBB0/IO56RSB0 (io), 162 GND (power), 163 GBC1/IO55RSB0 (io), 164 GBC0/IO54RSB0 (io), 165 IO52RSB0 (io), 166 IO49RSB0 (io), 167 IO46RSB0 (io), 168 IO43RSB0 (io), 169 IO40RSB0 (io), 170 VCCIB0 (power), 171 VCC (power), 172 IO36RSB0 (io), 173 IO35RSB0 (io), 174 IO34RSB0 (io), 175 IO33RSB0 (io), 176 IO32RSB0 (io), 177 IO31RSB0 (io), 178 GND (power), 179 IO29RSB0 (io), 180 IO28RSB0 (io), 181 IO27RSB0 (io), 182 IO26RSB0 (io), 183 IO25RSB0 (io), 184 IO24RSB0 (io), 185 IO23RSB0 (io), 186 VCCIB0 (power), 187 VCC (power), 188 IO21RSB0 (io), 189 IO20RSB0 (io), 190 IO19RSB0 (io), 191 IO18RSB0 (io), 192 IO17RSB0 (io), 193 IO16RSB0 (io), 194 IO15RSB0 (io), 195 GND (power), 196 IO13RSB0 (io), 197 IO11RSB0 (io), 198 IO09RSB0 (io), 199 IO07RSB0 (io), 200 VCCIB0 (power), 201 GAC1/IO05RSB0 (io), 202 GAC0/IO04RSB0 (io), 203 GAB1/IO03RSB0 (io), 204 GAB0/IO02RSB0 (io), 205 GAA1/IO01RSB0 (io), 206 GAA0/IO00RSB0 (io), 207 GNDQ (power), 208 VMV0 (power)

## A3P600-PQG208
designator *  value A3P600-PQG208
ki_keywords: ProASIC3 ACTEL FLASH; ki_description: Actel ProASIC3 Flash Family FPGAs, 600k Gates, 208pin QFP; ki_fp_filters: *PQFP*28x28mm*P0.5mm*; Footprint: Package_QFP:PQFP-208_28x28mm_P0.5mm; Supplier: http://www.microsemi.com/document-portal/doc_download/130704-proasic3-flash-family-fpgas-datasheet
footprint PQFP-208_28x28mm_P0.5mm
pins: 1 GND (power), 2 IO174PDB3/GAA2 (io), 3 IO174NDB3 (io), 4 IO173PDB3/GAB2 (io), 5 IO173NDB3 (io), 6 IO172PDB3/GAC2 (io), 7 IO172NDB3 (io), 8 IO171PDB3 (io), 9 IO171NDB3 (io), 10 IO170PDB3 (io), 11 IO170NDB3 (io), 12 IO169PDB3 (io), 13 IO169NDB3 (io), 14 IO168PDB3 (io), 15 IO168NDB3 (io), 16 VCC (power), 17 GND (power), 18 VCCIB3 (power), 19 IO166PDB3 (io), 20 IO166NDB3 (io), 21 IO164PDB3/GFC1 (io), 22 IO164NDB3/GFC0 (io), 23 IO163PDB3/GFB1 (io), 24 IO163NDB3/GFB0 (io), 25 VCOMPLF (power), 26 IO162NPB3/GFA0 (io), 27 VCCPLF (power), 28 IO162PPB3/GFA1 (io), 29 GND (power), 30 IO161PDB3/GFA2 (io), 31 IO161NDB3 (io), 32 IO160PDB3/GFB2 (io), 33 IO160NDB3 (io), 34 IO159PDB3/GFC2 (io), 35 IO159NDB3 (io), 36 VCC (power), 37 IO152PDB3 (io), 38 IO152NDB3 (io), 39 IO150PSB3 (io), 40 VCCIB3 (power), 41 GND (power), 42 IO147PDB3 (io), 43 IO147NDB3 (io), 44 IO146PDB3/GEC1 (io), 45 IO146NDB3/GEC0 (io), 46 IO145PDB3/GEB1 (io), 47 IO145NDB3/GEB0 (io), 48 IO144PDB3/GEA1 (io), 49 IO144NDB3/GEA0 (io), 50 VMV3 (power), 51 GNDQ (power), 52 GND (power), 53 VMV2 (power), 54 IO143RSB2/GEA2 (io), 55 IO142RSB2/GEB2 (io), 56 IO141RSB2/GEC2 (io), 57 IO140RSB2 (io), 58 IO139RSB2 (io), 59 IO138RSB2 (io), 60 IO137RSB2 (io), 61 IO136RSB2 (io), 62 VCCIB2 (power), 63 IO135RSB2 (io), 64 IO133RSB2 (io), 65 GND (power), 66 IO131RSB2 (io), 67 IO129RSB2 (io), 68 IO127RSB2 (io), 69 IO125RSB2 (io), 70 IO123RSB2 (io), 71 VCC (power), 72 VCCIB2 (power), 73 IO120RSB2 (io), 74 IO119RSB2 (io), 75 IO118RSB2 (io), 76 IO117RSB2 (io), 77 IO116RSB2 (io), 78 IO115RSB2 (io), 79 IO114RSB2 (io), 80 IO112RSB2 (io), 81 GND (power), 82 IO111RSB2 (io), 83 IO110RSB2 (io), 84 IO109RSB2 (io), 85 IO108RSB2 (io), 86 IO107RSB2 (io), 87 IO106RSB2 (io), 88 VCC (power), 89 VCCIB2 (power), 90 IO104RSB2 (io), 91 IO102RSB2 (io), 92 IO100RSB2 (io), 93 IO98RSB2 (io), 94 IO96RSB2 (io), 95 IO92RSB2 (io), 96 IO91RSB2/GDC2 (io), 97 GND (power), 98 IO90RSB2/GDB2 (io), 99 IO89RSB2/GDA2 (io), 100 GNDQ (power), 101 TCK (io), 102 TDI (io), 103 TMS (io), 104 VMV2 (power), 105 GND (power), 106 VPUMP (power), 107 GNDQ (power), 108 TDO (io), 109 TRST (io), 110 VJTAG (power), 111 GDA0/IO88NDB1 (io), 112 GDA1/IO88PDB1 (io), 113 GDB0/IO87NDB1 (io), 114 GDB1/IO87PDB1 (io), 115 GDC0/IO86NDB1 (io), 116 GDC1/IO86PDB1 (io), 117 IO84NDB1 (io), 118 IO84PDB1 (io), 119 IO82NDB1 (io), 120 IO82PDB1 (io), 121 IO81PSB1 (io), 122 GND (power), 123 VCCIB1 (power), 124 IO77NDB1 (io), 125 IO77PDB1 (io), 127 IO74NDB1 (io), 128 GCC2/IO74PDB1 (io), 129 GCB2/IO73PSB1 (io), 130 GND (power), 131 GCA2/IO72PSB1 (io), 132 GCA1/IO71PDB1 (io), 133 GCA0/IO71NDB1 (io), 134 GCB0/IO70NDB1 (io), 135 GCB1/IO70PDB1 (io), 136 GCC0/IO69NDB1 (io), 137 GCC1/IO69PDB1 (io), 138 IO67NDB1 (io), 139 IO67PDB1 (io), 140 VCCIB1 (power), 141 GND (power), 142 VCC (power), 143 IO65PSB1 (io), 144 IO64NDB1 (io), 145 IO64PDB1 (io), 146 IO63NDB1 (io), 147 IO63PDB1 (io), 148 IO62NDB1 (io), 149 GBC2/IO62PDB1 (io), 150 IO61NDB1 (io), 151 GBB2/IO61PDB1 (io), 152 IO60NDB1 (io), 153 GBA2/IO60PDB1 (io), 154 VMV1 (power), 155 GNDQ (power), 156 GND (power), 157 VMV0 (power), 158 GBA1/IO59RSB0 (io), 159 GBA0/IO58RSB0 (io), 160 GBB1/IO57RSB0 (io), 161 GBB0/IO56RSB0 (io), 162 GND (power), 163 GBC1/IO55RSB0 (io), 164 GBC0/IO54RSB0 (io), 165 IO52RSB0 (io), 166 IO50RSB0 (io), 167 IO48RSB0 (io), 168 IO46RSB0 (io), 169 IO44RSB0 (io), 170 VCCIB0 (power), 171 VCC (power), 172 IO36RSB0 (io), 173 IO35RSB0 (io), 174 IO34RSB0 (io), 175 IO33RSB0 (io), 176 IO32RSB0 (io), 177 IO31RSB0 (io), 178 GND (power), 179 IO29RSB0 (io), 180 IO28RSB0 (io), 181 IO27RSB0 (io), 182 IO26RSB0 (io), 183 IO25RSB0 (io), 184 IO24RSB0 (io), 185 IO23RSB0 (io), 186 VCCIB0 (power), 187 VCC (power), 188 IO20RSB0 (io), 189 IO19RSB0 (io), 190 IO18RSB0 (io), 191 IO17RSB0 (io), 192 IO16RSB0 (io), 193 IO14RSB0 (io), 194 IO12RSB0 (io), 195 GND (power), 196 IO10RSB0 (io), 197 IO09RSB0 (io), 198 IO08RSB0 (io), 199 IO07RSB0 (io), 200 VCCIB0 (power), 201 GAC1/IO05RSB0 (io), 202 GAC0/IO04RSB0 (io), 203 GAB1/IO03RSB0 (io), 204 GAB0/IO02RSB0 (io), 205 GAA1/IO01RSB0 (io), 206 GAA0/IO00RSB0 (io), 207 GNDQ (power), 208 VMV0 (power)

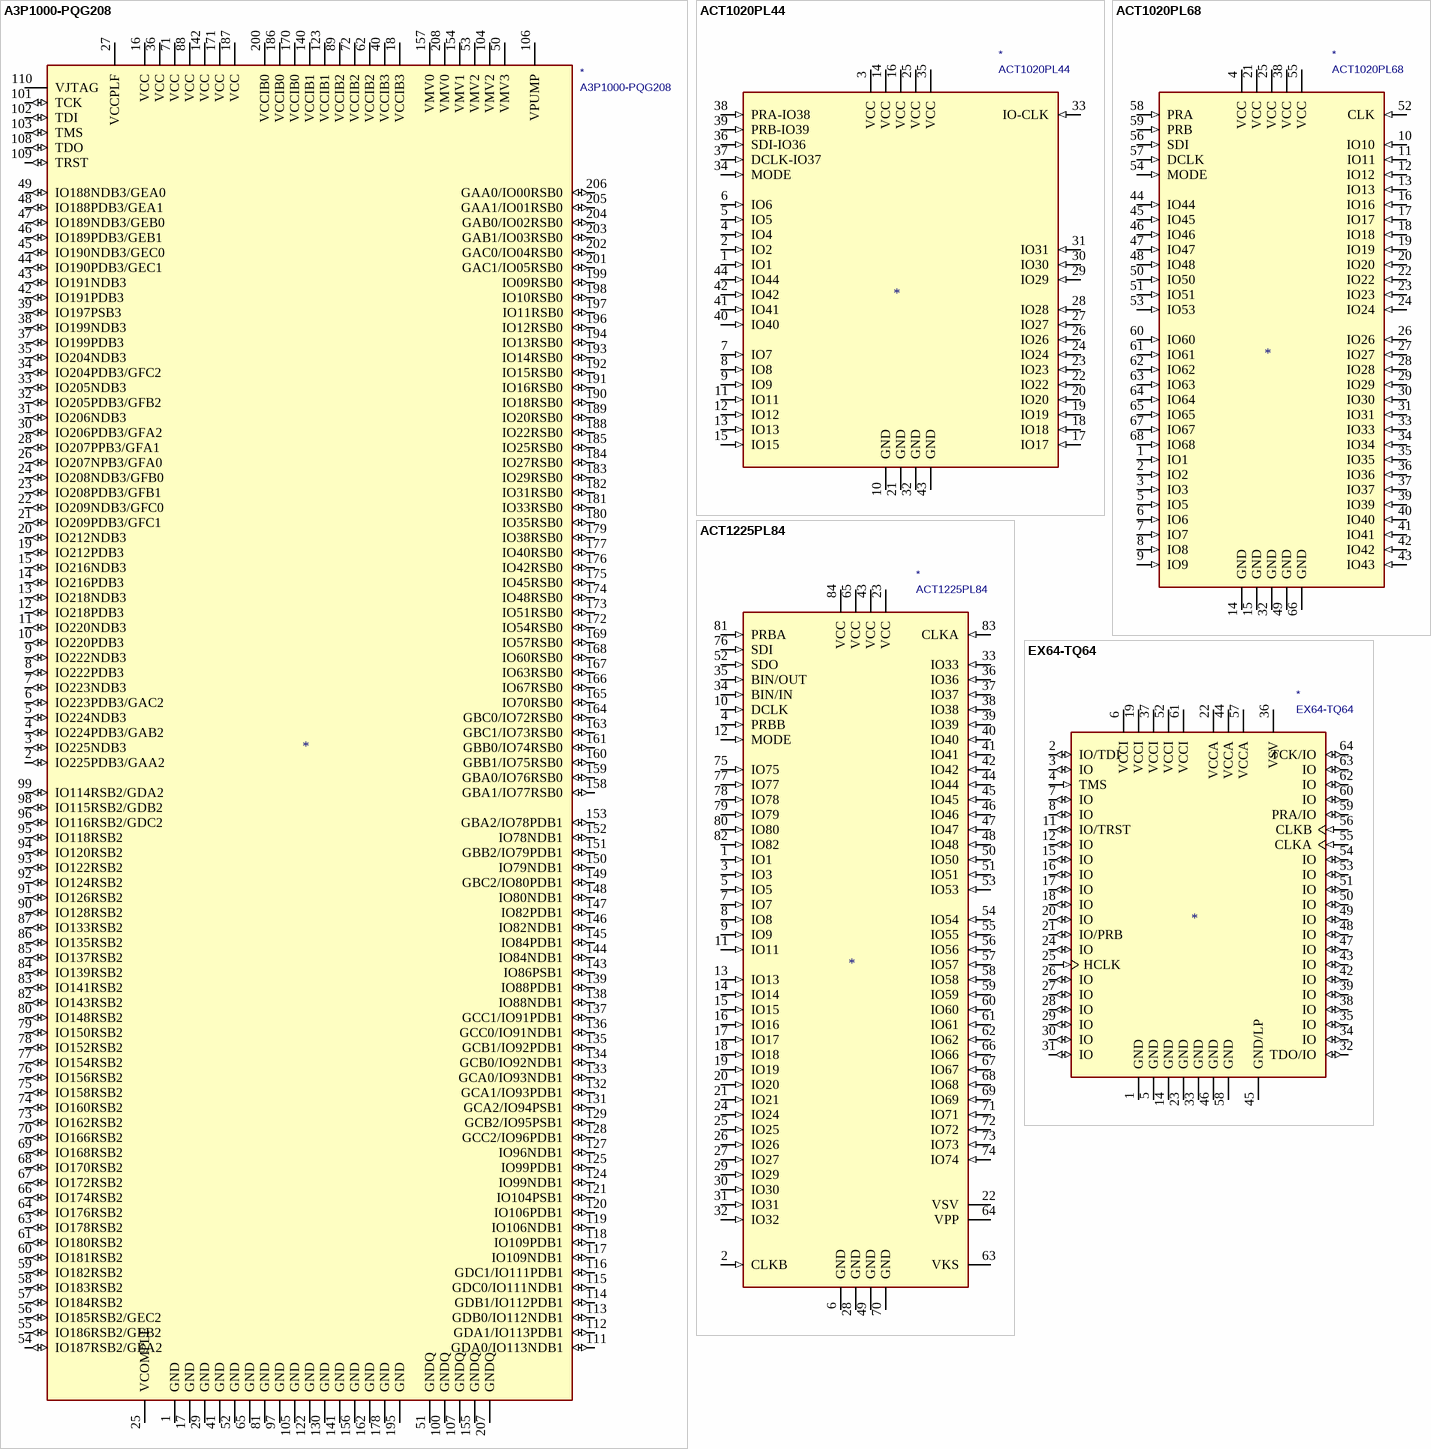
[diagram p4: symbols A3P1000-PQG208 to EX64-TQ64]

## A3P1000-PQG208
designator *  value A3P1000-PQG208
ki_keywords: ProASIC3 ACTEL FLASH; ki_description: Actel ProASIC3 Flash Family FPGAs, 1000k Gates, 208pin QFP; ki_fp_filters: *PQFP*28x28mm*P0.5mm*; Footprint: Package_QFP:PQFP-208_28x28mm_P0.5mm; Supplier: http://www.microsemi.com/document-portal/doc_download/130704-proasic3-flash-family-fpgas-datasheet
footprint PQFP-208_28x28mm_P0.5mm
pins: 1 GND (power), 2 IO225PDB3/GAA2 (io), 3 IO225NDB3 (io), 4 IO224PDB3/GAB2 (io), 5 IO224NDB3 (io), 6 IO223PDB3/GAC2 (io), 7 IO223NDB3 (io), 8 IO222PDB3 (io), 9 IO222NDB3 (io), 10 IO220PDB3 (io), 11 IO220NDB3 (io), 12 IO218PDB3 (io), 13 IO218NDB3 (io), 14 IO216PDB3 (io), 15 IO216NDB3 (io), 16 VCC (power), 17 GND (power), 18 VCCIB3 (power), 19 IO212PDB3 (io), 20 IO212NDB3 (io), 21 IO209PDB3/GFC1 (io), 22 IO209NDB3/GFC0 (io), 23 IO208PDB3/GFB1 (io), 24 IO208NDB3/GFB0 (io), 25 VCOMPLF (power), 26 IO207NPB3/GFA0 (io), 27 VCCPLF (power), 28 IO207PPB3/GFA1 (io), 29 GND (power), 30 IO206PDB3/GFA2 (io), 31 IO206NDB3 (io), 32 IO205PDB3/GFB2 (io), 33 IO205NDB3 (io), 34 IO204PDB3/GFC2 (io), 35 IO204NDB3 (io), 36 VCC (power), 37 IO199PDB3 (io), 38 IO199NDB3 (io), 39 IO197PSB3 (io), 40 VCCIB3 (power), 41 GND (power), 42 IO191PDB3 (io), 43 IO191NDB3 (io), 44 IO190PDB3/GEC1 (io), 45 IO190NDB3/GEC0 (io), 46 IO189PDB3/GEB1 (io), 47 IO189NDB3/GEB0 (io), 48 IO188PDB3/GEA1 (io), 49 IO188NDB3/GEA0 (io), 50 VMV3 (power), 51 GNDQ (power), 52 GND (power), 53 VMV2 (power), 54 IO187RSB2/GEA2 (io), 55 IO186RSB2/GEB2 (io), 56 IO185RSB2/GEC2 (io), 57 IO184RSB2 (io), 58 IO183RSB2 (io), 59 IO182RSB2 (io), 60 IO181RSB2 (io), 61 IO180RSB2 (io), 62 VCCIB2 (power), 63 IO178RSB2 (io), 64 IO176RSB2 (io), 65 GND (power), 66 IO174RSB2 (io), 67 IO172RSB2 (io), 68 IO170RSB2 (io), 69 IO168RSB2 (io), 70 IO166RSB2 (io), 71 VCC (power), 72 VCCIB2 (power), 73 IO162RSB2 (io), 74 IO160RSB2 (io), 75 IO158RSB2 (io), 76 IO156RSB2 (io), 77 IO154RSB2 (io), 78 IO152RSB2 (io), 79 IO150RSB2 (io), 80 IO148RSB2 (io), 81 GND (power), 82 IO143RSB2 (io), 83 IO141RSB2 (io), 84 IO139RSB2 (io), 85 IO137RSB2 (io), 86 IO135RSB2 (io), 87 IO133RSB2 (io), 88 VCC (power), 89 VCCIB2 (power), 90 IO128RSB2 (io), 91 IO126RSB2 (io), 92 IO124RSB2 (io), 93 IO122RSB2 (io), 94 IO120RSB2 (io), 95 IO118RSB2 (io), 96 IO116RSB2/GDC2 (io), 97 GND (power), 98 IO115RSB2/GDB2 (io), 99 IO114RSB2/GDA2 (io), 100 GNDQ (power), 101 TCK (io), 102 TDI (io), 103 TMS (io), 104 VMV2 (power), 105 GND (power), 106 VPUMP (power), 107 GNDQ (power), 108 TDO (io), 109 TRST (io), 110 VJTAG (power), 111 GDA0/IO113NDB1 (io), 112 GDA1/IO113PDB1 (io), 113 GDB0/IO112NDB1 (io), 114 GDB1/IO112PDB1 (io), 115 GDC0/IO111NDB1 (io), 116 GDC1/IO111PDB1 (io), 117 IO109NDB1 (io), 118 IO109PDB1 (io), 119 IO106NDB1 (io), 120 IO106PDB1 (io), 121 IO104PSB1 (io), 122 GND (power), 123 VCCIB1 (power), 124 IO99NDB1 (io), 125 IO99PDB1 (io), 127 IO96NDB1 (io), 128 GCC2/IO96PDB1 (io), 129 GCB2/IO95PSB1 (io), 130 GND (power), 131 GCA2/IO94PSB1 (io), 132 GCA1/IO93PDB1 (io), 133 GCA0/IO93NDB1 (io), 134 GCB0/IO92NDB1 (io), 135 GCB1/IO92PDB1 (io), 136 GCC0/IO91NDB1 (io), 137 GCC1/IO91PDB1 (io), 138 IO88NDB1 (io), 139 IO88PDB1 (io), 140 VCCIB1 (power), 141 GND (power), 142 VCC (power), 143 IO86PSB1 (io), 144 IO84NDB1 (io), 145 IO84PDB1 (io), 146 IO82NDB1 (io), 147 IO82PDB1 (io), 148 IO80NDB1 (io), 149 GBC2/IO80PDB1 (io), 150 IO79NDB1 (io), 151 GBB2/IO79PDB1 (io), 152 IO78NDB1 (io), 153 GBA2/IO78PDB1 (io), 154 VMV1 (power), 155 GNDQ (power), 156 GND (power), 157 VMV0 (power), 158 GBA1/IO77RSB0 (io), 159 GBA0/IO76RSB0 (io), 160 GBB1/IO75RSB0 (io), 161 GBB0/IO74RSB0 (io), 162 GND (power), 163 GBC1/IO73RSB0 (io), 164 GBC0/IO72RSB0 (io), 165 IO70RSB0 (io), 166 IO67RSB0 (io), 167 IO63RSB0 (io), 168 IO60RSB0 (io), 169 IO57RSB0 (io), 170 VCCIB0 (power), 171 VCC (power), 172 IO54RSB0 (io), 173 IO51RSB0 (io), 174 IO48RSB0 (io), 175 IO45RSB0 (io), 176 IO42RSB0 (io), 177 IO40RSB0 (io), 178 GND (power), 179 IO38RSB0 (io), 180 IO35RSB0 (io), 181 IO33RSB0 (io), 182 IO31RSB0 (io), 183 IO29RSB0 (io), 184 IO27RSB0 (io), 185 IO25RSB0 (io), 186 VCCIB0 (power), 187 VCC (power), 188 IO22RSB0 (io), 189 IO20RSB0 (io), 190 IO18RSB0 (io), 191 IO16RSB0 (io), 192 IO15RSB0 (io), 193 IO14RSB0 (io), 194 IO13RSB0 (io), 195 GND (power), 196 IO12RSB0 (io), 197 IO11RSB0 (io), 198 IO10RSB0 (io), 199 IO09RSB0 (io), 200 VCCIB0 (power), 201 GAC1/IO05RSB0 (io), 202 GAC0/IO04RSB0 (io), 203 GAB1/IO03RSB0 (io), 204 GAB0/IO02RSB0 (io), 205 GAA1/IO01RSB0 (io), 206 GAA0/IO00RSB0 (io), 207 GNDQ (power), 208 VMV0 (power)

## ACT1020PL44
designator *  value ACT1020PL44
ki_keywords: Actel FPGA; ki_description: ACT1020-PL44, Actel ACT1 FPGA, PLCC-44; ki_fp_filters: *PLCC*16.6x16.6mm*P1.27mm*; Footprint: Package_LCC:PLCC-44_16.6x16.6mm_P1.27mm; Supplier: https://www.microsemi.com/document-portal/doc_download/130666-act-1-series-fpgas-datasheet
footprint PLCC-44_16.6x16.6mm_P1.27mm
pins: 1 IO1 (in), 2 IO2 (in), 3 VCC (power), 4 IO4 (in), 5 IO5 (in), 6 IO6 (in), 7 IO7 (in), 8 IO8 (in), 9 IO9 (in), 10 GND (power), 11 IO11 (in), 12 IO12 (in), 13 IO13 (in), 14 VCC (power), 15 IO15 (in), 16 VCC (power), 17 IO17 (in), 18 IO18 (in), 19 IO19 (in), 20 IO20 (in), 21 GND (power), 22 IO22 (in), 23 IO23 (in), 24 IO24 (in), 25 VCC (power), 26 IO26 (in), 27 IO27 (in), 28 IO28 (in), 29 IO29 (in), 30 IO30 (in), 31 IO31 (in), 32 GND (power), 33 IO-CLK (in), 34 MODE (in), 35 VCC (power), 36 SDI-IO36 (in), 37 DCLK-IO37 (in), 38 PRA-IO38 (in), 39 PRB-IO39 (in), 40 IO40 (in), 41 IO41 (in), 42 IO42 (in), 43 GND (power), 44 IO44 (in)

## ACT1020PL68
designator *  value ACT1020PL68
ki_keywords: Actel FPGA; ki_description: ACT1020-PL68, Actel ACT1 FPGA, PLCC-68; ki_fp_filters: *PLCC*24.2x24.2mm*P1.27mm*; Footprint: Package_LCC:PLCC-68_24.2x24.2mm_P1.27mm; Supplier: https://www.microsemi.com/document-portal/doc_download/130666-act-1-series-fpgas-datasheet
footprint PLCC-68_24.2x24.2mm_P1.27mm
pins: 1 IO1 (in), 2 IO2 (in), 3 IO3 (in), 4 VCC (power), 5 IO5 (in), 6 IO6 (in), 7 IO7 (in), 8 IO8 (in), 9 IO9 (in), 10 IO10 (in), 11 IO11 (in), 12 IO12 (in), 13 IO13 (in), 14 GND (power), 15 GND (power), 16 IO16 (in), 17 IO17 (in), 18 IO18 (in), 19 IO19 (in), 20 IO20 (in), 21 VCC (power), 22 IO22 (in), 23 IO23 (in), 24 IO24 (in), 25 VCC (power), 26 IO26 (in), 27 IO27 (in), 28 IO28 (in), 29 IO29 (in), 30 IO30 (in), 31 IO31 (in), 32 GND (power), 33 IO33 (in), 34 IO34 (in), 35 IO35 (in), 36 IO36 (in), 37 IO37 (in), 38 VCC (power), 39 IO39 (in), 40 IO40 (in), 41 IO41 (in), 42 IO42 (in), 43 IO43 (in), 44 IO44 (in), 45 IO45 (in), 46 IO46 (in), 47 IO47 (in), 48 IO48 (in), 49 GND (power), 50 IO50 (in), 51 IO51 (in), 52 CLK (in), 53 IO53 (in), 54 MODE (in), 55 VCC (power), 56 SDI (in), 57 DCLK (in), 58 PRA (in), 59 PRB (in), 60 IO60 (in), 61 IO61 (in), 62 IO62 (in), 63 IO63 (in), 64 IO64 (in), 65 IO65 (in), 66 GND (power), 67 IO67 (in), 68 IO68 (in)

## ACT1225PL84
designator *  value ACT1225PL84
ki_keywords: Actel FPGA; ki_description: ACT1225-PL84, Actel ACT1 FPGA, PLCC-84; ki_fp_filters: *PLCC*29.3x29.3mm*P1.27mm*; Footprint: Package_LCC:PLCC-84_29.3x29.3mm_P1.27mm; Supplier: https://www.microsemi.com/document-portal/doc_download/130666-act-1-series-fpgas-datasheet
footprint PLCC-84_29.3x29.3mm_P1.27mm
pins: 1 IO1 (in), 2 CLKB (in), 3 IO3 (in), 4 PRBB (in), 5 IO5 (in), 6 GND (power), 7 IO7 (in), 8 IO8 (in), 9 IO9 (in), 10 DCLK (in), 11 IO11 (in), 12 MODE (in), 13 IO13 (in), 14 IO14 (in), 15 IO15 (in), 16 IO16 (in), 17 IO17 (in), 18 IO18 (in), 19 IO19 (in), 20 IO20 (in), 21 IO21 (in), 22 VSV, 23 VCC (power), 24 IO24 (in), 25 IO25 (in), 26 IO26 (in), 27 IO27 (in), 28 GND (power), 29 IO29 (in), 30 IO30 (in), 31 IO31 (in), 32 IO32 (in), 33 IO33 (in), 34 BIN/IN (in), 35 BIN/OUT (in), 36 IO36 (in), 37 IO37 (in), 38 IO38 (in), 39 IO39 (in), 40 IO40 (in), 41 IO41 (in), 42 IO42 (in), 43 VCC (power), 44 IO44 (in), 45 IO45 (in), 46 IO46 (in), 47 IO47 (in), 48 IO48 (in), 49 GND (power), 50 IO50 (in), 51 IO51 (in), 52 SDO (in), 53 IO53 (in), 54 IO54 (in), 55 IO55 (in), 56 IO56 (in), 57 IO57 (in), 58 IO58 (in), 59 IO59 (in), 60 IO60 (in), 61 IO61 (in), 62 IO62 (in), 63 VKS, 64 VPP, 65 VCC (power), 66 IO66 (in), 67 IO67 (in), 68 IO68 (in), 69 IO69 (in), 70 GND (power), 71 IO71 (in), 72 IO72 (in), 73 IO73 (in), 74 IO74 (in), 75 IO75 (in), 76 SDI (in), 77 IO77 (in), 78 IO78 (in), 79 IO79 (in), 80 IO80 (in), 81 PRBA (in), 82 IO82 (in), 83 CLKA (in), 84 VCC (power)

## EX64-TQ64
designator *  value EX64-TQ64
ki_keywords: Actel FPGA eX eX64; ki_description: Actel eX Family FPGA, 64pin QFP; ki_fp_filters: *TQFP*10x10mm*P0.5mm*; Footprint: Package_QFP:TQFP-64_10x10mm_P0.5mm; Supplier: http://www.microsemi.com/document-portal/doc_download/130687-ex-datasheet
footprint TQFP-64_10x10mm_P0.5mm
pins: 1 GND (power), 2 IO/TDI (io), 3 IO (io), 4 TMS (in), 5 GND (power), 6 VCCI (power), 7 IO (io), 8 IO (io), 11 IO/TRST (io), 12 IO (io), 14 GND (power), 15 IO (io), 16 IO (io), 17 IO (io), 18 IO (io), 19 VCCI (power), 20 IO (io), 21 IO/PRB (io), 22 VCCA (power), 23 GND (power), 24 IO (io), 25 HCLK (in), 26 IO (io), 27 IO (io), 28 IO (io), 29 IO (io), 30 IO (io), 31 IO (io), 32 TDO/IO (io), 33 GND (power), 34 IO (io), 35 IO (io), 36 VSV (power), 37 VCCI (power), 38 IO (io), 39 IO (io), 42 IO (io), 43 IO (io), 44 VCCA (power), 45 GND/LP (power), 46 GND (power), 47 IO (io), 48 IO (io), 49 IO (io), 50 IO (io), 51 IO (io), 52 VCCI (power), 53 IO (io), 54 IO (io), 55 CLKA (in), 56 CLKB (in), 57 VCCA (power), 58 GND (power), 59 PRA/IO (io), 60 IO (io), 61 VCCI (power), 62 IO (io), 63 IO (io), 64 TCK/IO (io)

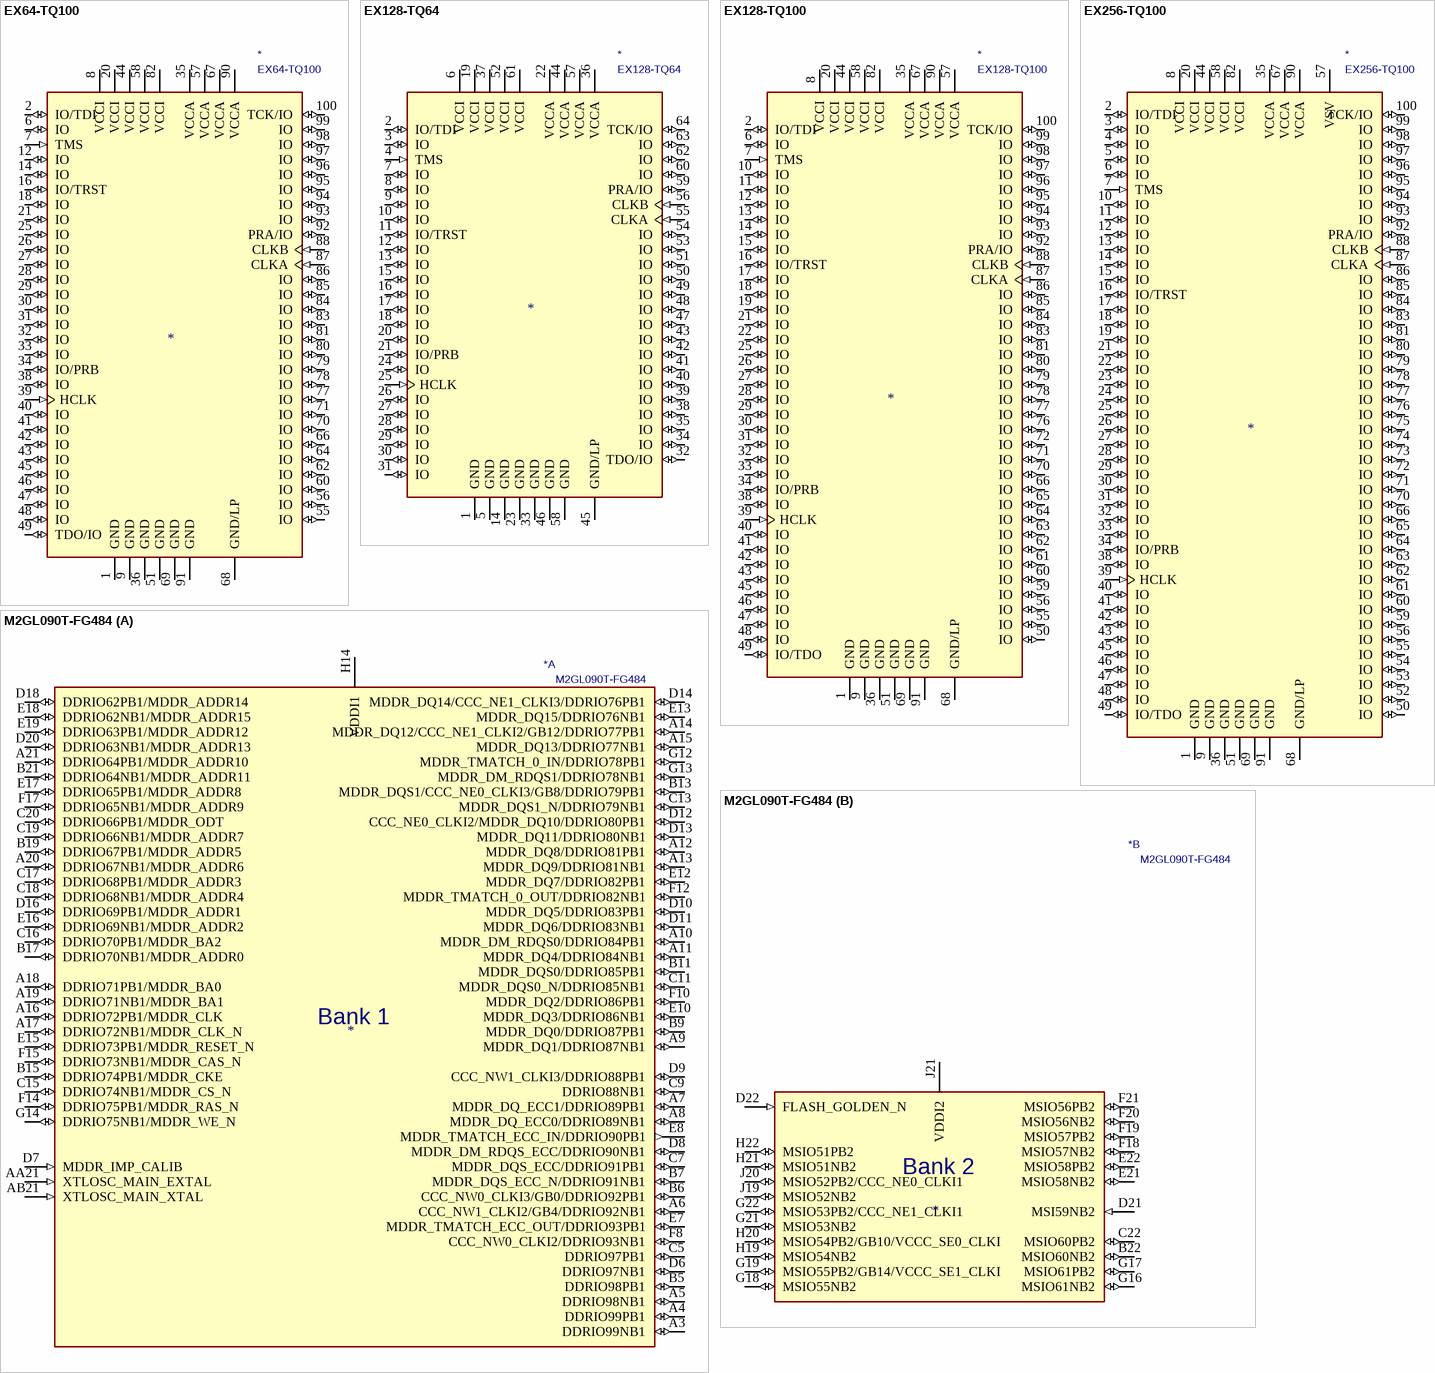
[diagram p5: symbols EX64-TQ100 to M2GL090T-FG484]

## EX64-TQ100
designator *  value EX64-TQ100
ki_keywords: Actel FPGA eX eX64; ki_description: Actel eX Family FPGA, 100pin QFP; ki_fp_filters: *QFP*14x14mm*P0.5mm*; Footprint: Package_QFP:TQFP-100_14x14mm_P0.5mm; Supplier: http://www.microsemi.com/document-portal/doc_download/130687-ex-datasheet
footprint TQFP-100_14x14mm_P0.5mm
pins: 1 GND (power), 2 IO/TDI (io), 6 IO (io), 7 TMS (in), 8 VCCI (power), 9 GND (power), 12 IO (io), 14 IO (io), 16 IO/TRST (io), 18 IO (io), 20 VCCI (power), 21 IO (io), 25 IO (io), 26 IO (io), 27 IO (io), 28 IO (io), 29 IO (io), 30 IO (io), 31 IO (io), 32 IO (io), 33 IO (io), 34 IO/PRB (io), 35 VCCA (power), 36 GND (power), 38 IO (io), 39 HCLK (in), 40 IO (io), 41 IO (io), 42 IO (io), 43 IO (io), 44 VCCI (power), 45 IO (io), 46 IO (io), 47 IO (io), 48 IO (io), 49 TDO/IO (io), 51 GND (power), 55 IO (io), 56 IO (io), 57 VCCA (power), 58 VCCI (power), 60 IO (io), 62 IO (io), 64 IO (io), 66 IO (io), 67 VCCA (power), 68 GND/LP (power), 69 GND (power), 70 IO (io), 71 IO (io), 77 IO (io), 78 IO (io), 79 IO (io), 80 IO (io), 81 IO (io), 82 VCCI (power), 83 IO (io), 84 IO (io), 85 IO (io), 86 IO (io), 87 CLKA (in), 88 CLKB (in), 90 VCCA (power), 91 GND (power), 92 PRA/IO (io), 93 IO (io), 94 IO (io), 95 IO (io), 96 IO (io), 97 IO (io), 98 IO (io), 99 IO (io), 100 TCK/IO (io)

## EX128-TQ64
designator *  value EX128-TQ64
ki_keywords: Actel FPGA eX eX128; ki_description: Actel eX Family FPGA, 64pin QFP; ki_fp_filters: *TQFP*10x10mm*P0.5mm*; Footprint: Package_QFP:TQFP-64_10x10mm_P0.5mm; Supplier: http://www.microsemi.com/document-portal/doc_download/130687-ex-datasheet
footprint TQFP-64_10x10mm_P0.5mm
pins: 1 GND (power), 2 IO/TDI (io), 3 IO (io), 4 TMS (in), 5 GND (power), 6 VCCI (power), 7 IO (io), 8 IO (io), 9 IO (io), 10 IO (io), 11 IO/TRST (io), 12 IO (io), 13 IO (io), 14 GND (power), 15 IO (io), 16 IO (io), 17 IO (io), 18 IO (io), 19 VCCI (power), 20 IO (io), 21 IO/PRB (io), 22 VCCA (power), 23 GND (power), 24 IO (io), 25 HCLK (in), 26 IO (io), 27 IO (io), 28 IO (io), 29 IO (io), 30 IO (io), 31 IO (io), 32 TDO/IO (io), 33 GND (power), 34 IO (io), 35 IO (io), 36 VCCA (power), 37 VCCI (power), 38 IO (io), 39 IO (io), 40 IO (io), 41 IO (io), 42 IO (io), 43 IO (io), 44 VCCA (power), 45 GND/LP (power), 46 GND (power), 47 IO (io), 48 IO (io), 49 IO (io), 50 IO (io), 51 IO (io), 52 VCCI (power), 53 IO (io), 54 IO (io), 55 CLKA (in), 56 CLKB (in), 57 VCCA (power), 58 GND (power), 59 PRA/IO (io), 60 IO (io), 61 VCCI (power), 62 IO (io), 63 IO (io), 64 TCK/IO (io)

## EX128-TQ100
designator *  value EX128-TQ100
ki_keywords: Actel FPGA eX eX128; ki_description: Actel eX FPGA Family, 100pin QFP; ki_fp_filters: *QFP*14x14mm*P0.5mm*; Footprint: Package_QFP:TQFP-100_14x14mm_P0.5mm; Supplier: http://www.microsemi.com/document-portal/doc_download/130687-ex-datasheet
footprint TQFP-100_14x14mm_P0.5mm
pins: 1 GND (power), 2 IO/TDI (io), 6 IO (io), 7 TMS (in), 8 VCCI (power), 9 GND (power), 10 IO (io), 11 IO (io), 12 IO (io), 13 IO (io), 14 IO (io), 15 IO (io), 16 IO/TRST (io), 17 IO (io), 18 IO (io), 19 IO (io), 20 VCCI (power), 21 IO (io), 22 IO (io), 25 IO (io), 26 IO (io), 27 IO (io), 28 IO (io), 29 IO (io), 30 IO (io), 31 IO (io), 32 IO (io), 33 IO (io), 34 IO/PRB (io), 35 VCCA (power), 36 GND (power), 38 IO (io), 39 HCLK (in), 40 IO (io), 41 IO (io), 42 IO (io), 43 IO (io), 44 VCCI (power), 45 IO (io), 46 IO (io), 47 IO (io), 48 IO (io), 49 IO/TDO (io), 50 IO (io), 51 GND (power), 55 IO (io), 56 IO (io), 57 VCCA (power), 58 VCCI (power), 59 IO (io), 60 IO (io), 61 IO (io), 62 IO (io), 63 IO (io), 64 IO (io), 65 IO (io), 66 IO (io), 67 VCCA (power), 68 GND/LP (power), 69 GND (power), 70 IO (io), 71 IO (io), 72 IO (io), 76 IO (io), 77 IO (io), 78 IO (io), 79 IO (io), 80 IO (io), 81 IO (io), 82 VCCI (power), 83 IO (io), 84 IO (io), 85 IO (io), 86 IO (io), 87 CLKA (in), 88 CLKB (in), 90 VCCA (power), 91 GND (power), 92 PRA/IO (io), 93 IO (io), 94 IO (io), 95 IO (io), 96 IO (io), 97 IO (io), 98 IO (io), 99 IO (io), 100 TCK/IO (io)

## EX256-TQ100
designator *  value EX256-TQ100
ki_keywords: Actel FPGA eX eX256; ki_description: Actel eX FPGA Family, 100pin QFP; ki_fp_filters: *QFP*14x14mm*P0.5mm*; Footprint: Package_QFP:TQFP-100_14x14mm_P0.5mm; Supplier: http://www.microsemi.com/document-portal/doc_download/130687-ex-datasheet
footprint TQFP-100_14x14mm_P0.5mm
pins: 1 GND (power), 2 IO/TDI (io), 3 IO (io), 4 IO (io), 5 IO (io), 6 IO (io), 7 TMS (in), 8 VCCI (power), 9 GND (power), 10 IO (io), 11 IO (io), 12 IO (io), 13 IO (io), 14 IO (io), 15 IO (io), 16 IO/TRST (io), 17 IO (io), 18 IO (io), 19 IO (io), 20 VCCI (power), 21 IO (io), 22 IO (io), 23 IO (io), 24 IO (io), 25 IO (io), 26 IO (io), 27 IO (io), 28 IO (io), 29 IO (io), 30 IO (io), 31 IO (io), 32 IO (io), 33 IO (io), 34 IO/PRB (io), 35 VCCA (power), 36 GND (power), 38 IO (io), 39 HCLK (in), 40 IO (io), 41 IO (io), 42 IO (io), 43 IO (io), 44 VCCI (power), 45 IO (io), 46 IO (io), 47 IO (io), 48 IO (io), 49 IO/TDO (io), 50 IO (io), 51 GND (power), 52 IO (io), 53 IO (io), 54 IO (io), 55 IO (io), 56 IO (io), 57 VSV (power), 58 VCCI (power), 59 IO (io), 60 IO (io), 61 IO (io), 62 IO (io), 63 IO (io), 64 IO (io), 65 IO (io), 66 IO (io), 67 VCCA (power), 68 GND/LP (power), 69 GND (power), 70 IO (io), 71 IO (io), 72 IO (io), 73 IO (io), 74 IO (io), 75 IO (io), 76 IO (io), 77 IO (io), 78 IO (io), 79 IO (io), 80 IO (io), 81 IO (io), 82 VCCI (power), 83 IO (io), 84 IO (io), 85 IO (io), 86 IO (io), 87 CLKA (in), 88 CLKB (in), 90 VCCA (power), 91 GND (power), 92 PRA/IO (io), 93 IO (io), 94 IO (io), 95 IO (io), 96 IO (io), 97 IO (io), 98 IO (io), 99 IO (io), 100 TCK/IO (io)

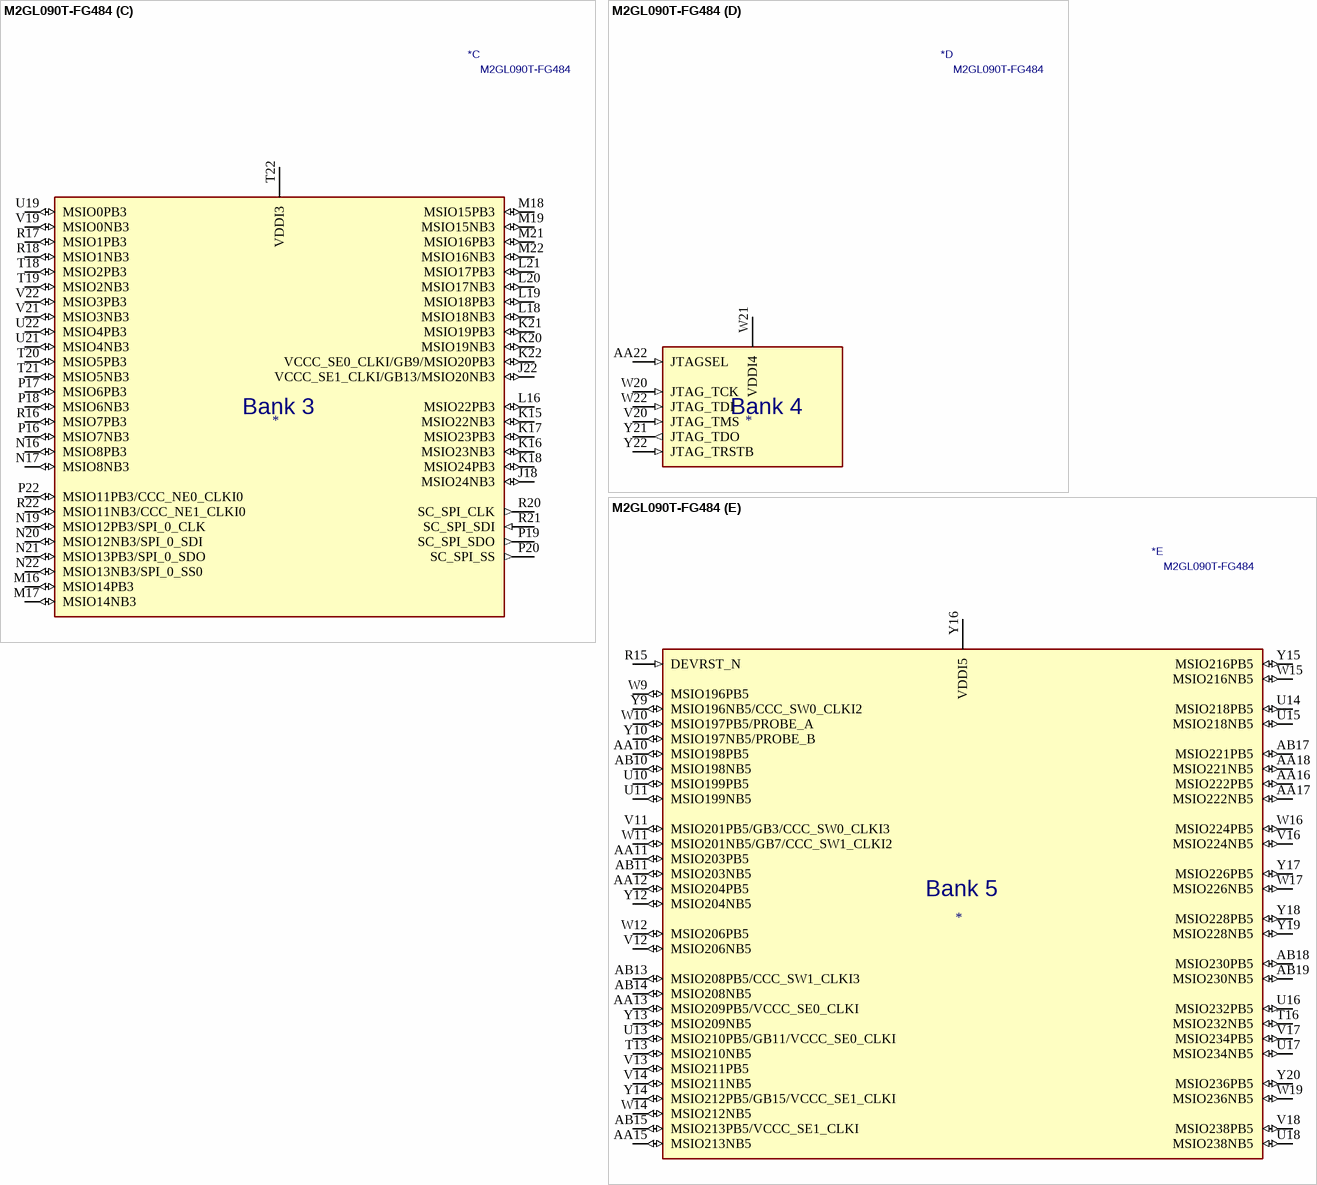
[diagram p6: symbol M2GL090T-FG484]

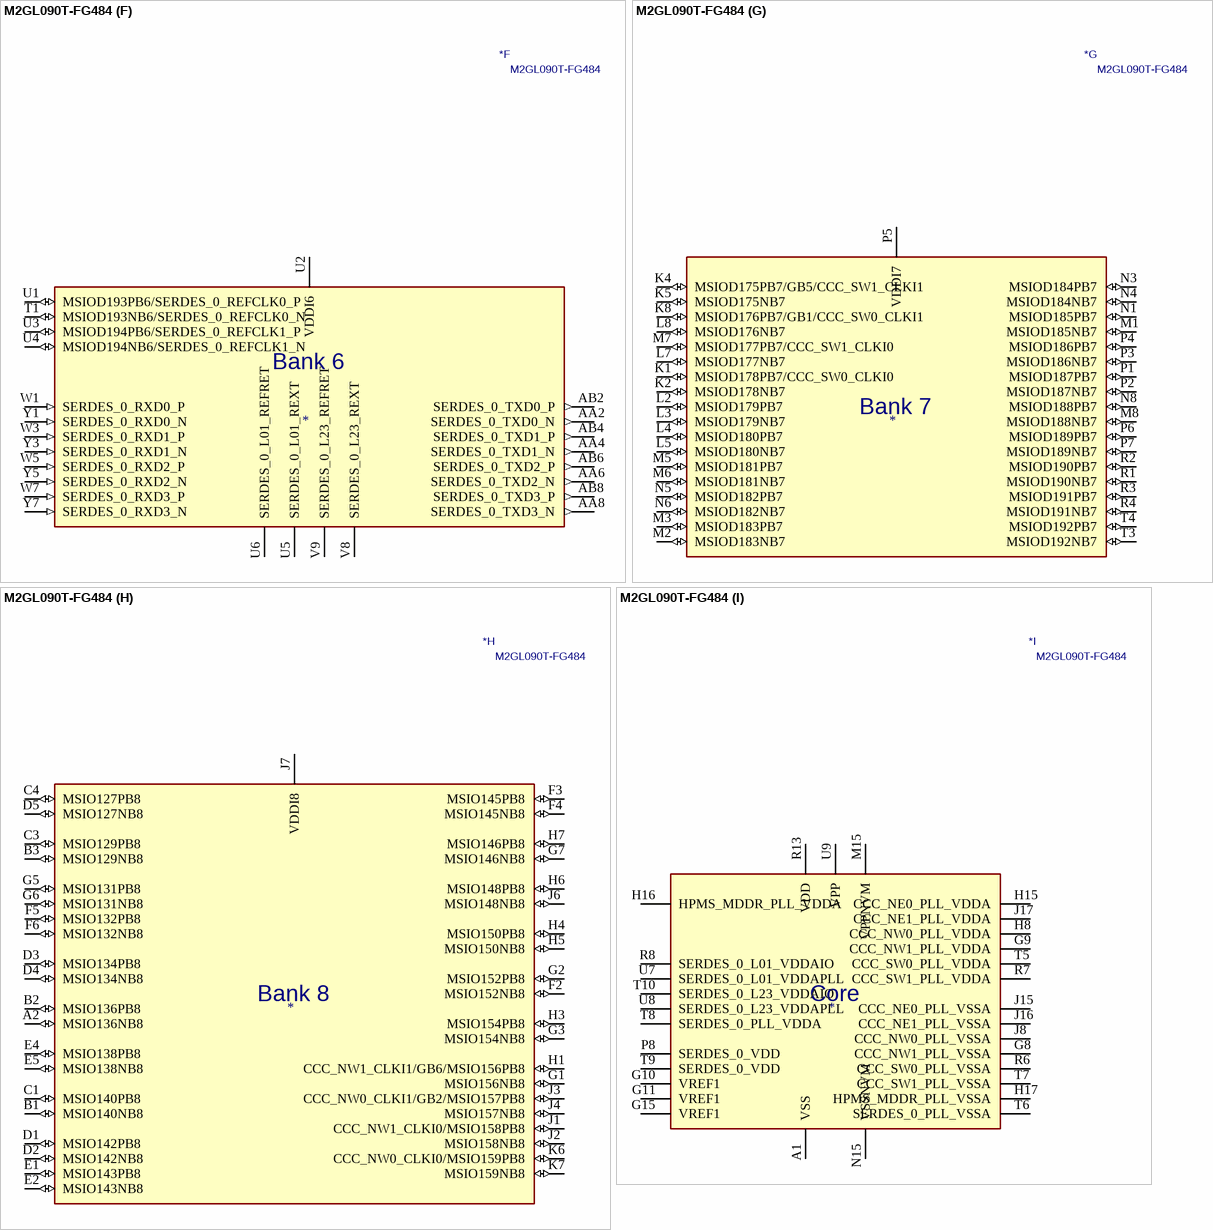
[diagram p7: symbol M2GL090T-FG484]